# Altium schematic symbol library hhr_lib.SchLib: 151 symbols
Pins are listed as number, name and electrical type; pins without a type are passive.

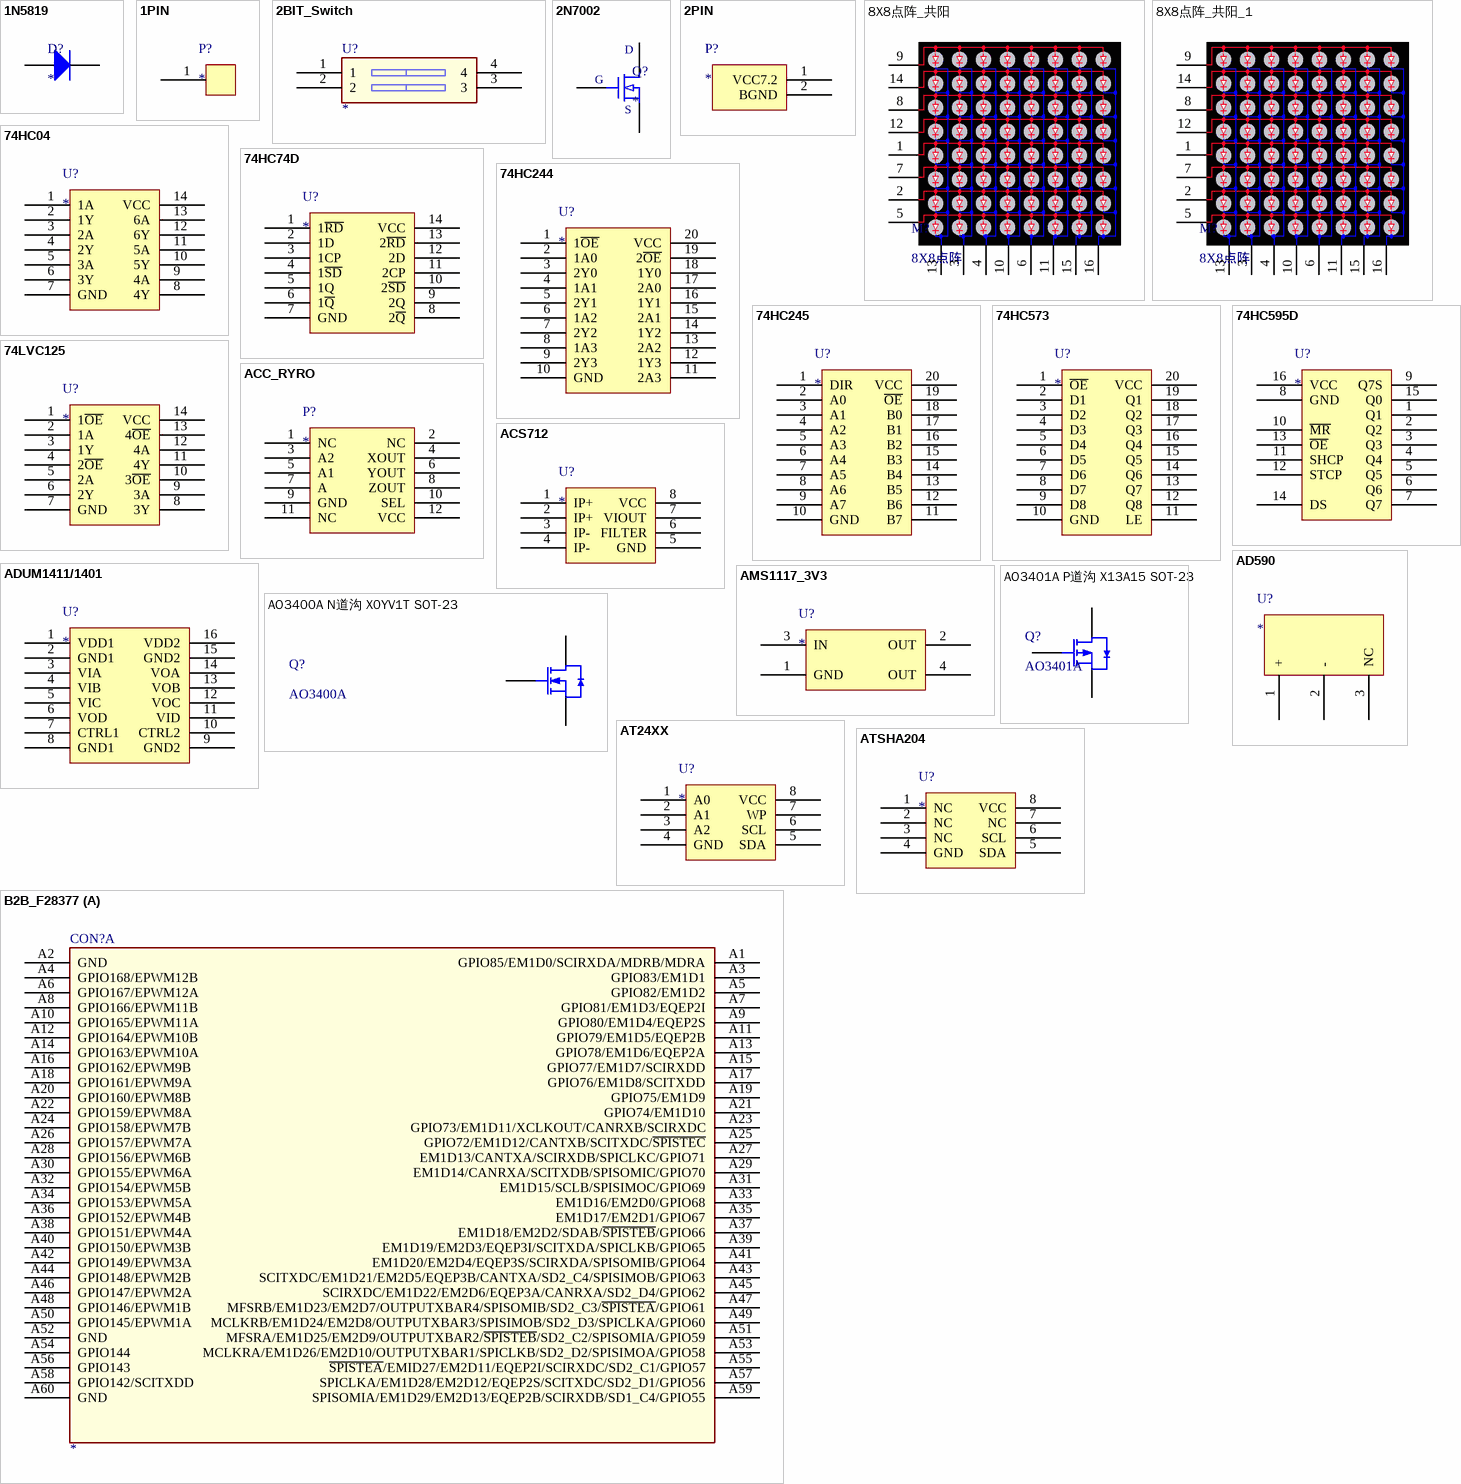
[diagram p0: symbols 1N5819 to B2B_F28377]

## 1N5819
designator D?
pins: 1 A, 2 K

## 1PIN
designator P?
footprint TEST-1P (Generic Antenna; 1 Lead)
pins: 1

## 2BIT_Switch
designator U?
footprint CON_2PIN_DIP (CON_2PIN_DIP_2D54)
pins: 1, 2, 3, 4

## 2N7002
designator Q?
pins: 1 G, 2 D, 3 S

## 2PIN
designator P?
footprint T型插头公
pins: 1 VCC7.2, 2 BGND

## 8X8点阵_共阳
designator M?, comment 8X8点阵
footprint M1588_8×8点阵
footprint M1588_8×8点阵
pins: 1 A5, 2 A7, 3 K2, 4 K3, 5 A8, 6 K5, 7 A6, 8 A3, 9 A1, 10 K4, 11 K6, 12 A4, 13 K1, 14 A2, 15 K7, 16 K8

## 8X8点阵_共阳_1
designator M?, comment 8X8点阵
footprint M1588_8×8点阵
pins: 1 A5, 2 A7, 3 K2, 4 K3, 5 A8, 6 K5, 7 A6, 8 A3, 9 A1, 10 K4, 11 K6, 12 A4, 13 K1, 14 A2, 15 K7, 16 K8

## 74HC04
designator U?
footprint SOP14 (LM339)
pins: 1 1A, 2 1Y, 3 2A, 4 2Y, 5 3A, 6 3Y, 7 GND, 8 4Y, 9 4A, 10 5Y, 11 5A, 12 6Y, 13 6A, 14 VCC

## 74HC74D
designator U?
footprint SOIC14
pins: 1 1~{RD}, 2 1D, 3 1CP, 4 1~{SD}, 5 1Q, 6 1~{Q}, 7 GND, 8 2~{Q}, 9 2Q, 10 2~{SD}, 11 2CP, 12 2D, 13 2~{RD}, 14 VCC

## 74HC244
designator U?
footprint SOIC20
pins: 1 1~{OE}, 2 1A0, 3 2Y0, 4 1A1, 5 2Y1, 6 1A2, 7 2Y2, 8 1A3, 9 2Y3, 10 GND, 11 2A3, 12 1Y3, 13 2A2, 14 1Y2, 15 2A1, 16 1Y1, 17 2A0, 18 1Y0, 19 2~{OE}, 20 VCC

## 74HC245
designator U?
footprint TSSOP20
pins: 1 DIR, 2 A0, 3 A1, 4 A2, 5 A3, 6 A4, 7 A5, 8 A6, 9 A7, 10 GND, 11 B7, 12 B6, 13 B5, 14 B4, 15 B3, 16 B2, 17 B1, 18 B0, 19 ~{OE}, 20 VCC

## 74HC573
designator U?
footprint SOP20
pins: 1 ~{OE}, 2 D1, 3 D2, 4 D3, 5 D4, 6 D5, 7 D6, 8 D7, 9 D8, 10 GND, 11 LE, 12 Q8, 13 Q7, 14 Q6, 15 Q5, 16 Q4, 17 Q3, 18 Q2, 19 Q1, 20 VCC

## 74HC595D
designator U?
footprint SO16
pins: 1 Q1, 2 Q2, 3 Q3, 4 Q4, 5 Q5, 6 Q6, 7 Q7, 8 GND, 9 Q7S, 10 ~{MR}, 11 SHCP, 12 STCP, 13 ~{OE}, 14 DS, 15 Q0, 16 VCC

## 74LVC125
designator U?
pins: 1 1~{OE}, 2 1A, 3 1Y, 4 2~{OE}, 5 2A, 6 2Y, 7 GND, 8 3Y, 9 3A, 10 3~{OE}, 11 4Y, 12 4A, 13 4~{OE}, 14 VCC

## ACC_RYRO
designator P?
pins: 1 NC, 2 NC, 3 A2, 4 XOUT, 5 A1, 6 YOUT, 7 A, 8 ZOUT, 9 GND, 10 SEL, 11 NC, 12 VCC

## ACS712
designator U?
footprint SOIC8
pins: 1 IP+, 2 IP+, 3 IP-, 4 IP-, 5 GND, 6 FILTER, 7 VIOUT, 8 VCC

## AD590
designator U?
footprint TO-52
pins: 1 +, 2 -, 3 NC

## ADUM1411/1401
designator U?
footprint SOL-16_L (16-Pin Small Outline Integrated Circuit 1.27 mm Pitch, IPC High Density)
pins: 1 VDD1, 2 GND1, 3 VIA, 4 VIB, 5 VIC, 6 VOD, 7 CTRL1, 8 GND1, 9 GND2, 10 CTRL2, 11 VID, 12 VOC, 13 VOB, 14 VOA, 15 GND2, 16 VDD2

## AMS1117_3V3
designator U?
footprint SOT-223
pins: 1 GND, 2 OUT, 3 IN, 4 OUT

## AO3400A N道沟 X0YV1T SOT-23
designator Q?, comment AO3400A
MOS(场效应管); ComponentLink1Description: 供应商链接; ComponentLink1URL: http://www.szlcsc.com/product/details_21629.html; Package: SOT-23; Supplier: LC; SuppliersPartNumber: C20917
footprint SOT-23-3L (http://www.aosmd.com/res/packaging_information/SOT-23-3L.pdf)
pins: 1 G, 2 S, 3 D

## AO3401A P道沟 X13A15 SOT-23
designator Q?, comment AO3401A
MOS(场效应管); ComponentLink1Description: 供应商链接; ComponentLink1URL: http://www.szlcsc.com/product/details_15801.html; Package: SOT-23; Supplier: LC; SuppliersPartNumber: C15127
footprint SOT23
pins: 1 G, 2 S, 3 D

## AT24XX
designator U?
footprint SOIC8
pins: 1 A0, 2 A1, 3 A2, 4 GND, 5 SDA, 6 SCL, 7 WP, 8 VCC

## ATSHA204
designator U?
footprint SOIC8
pins: 1 NC, 2 NC, 3 NC, 4 GND, 5 SDA, 6 SCL, 7 NC, 8 VCC

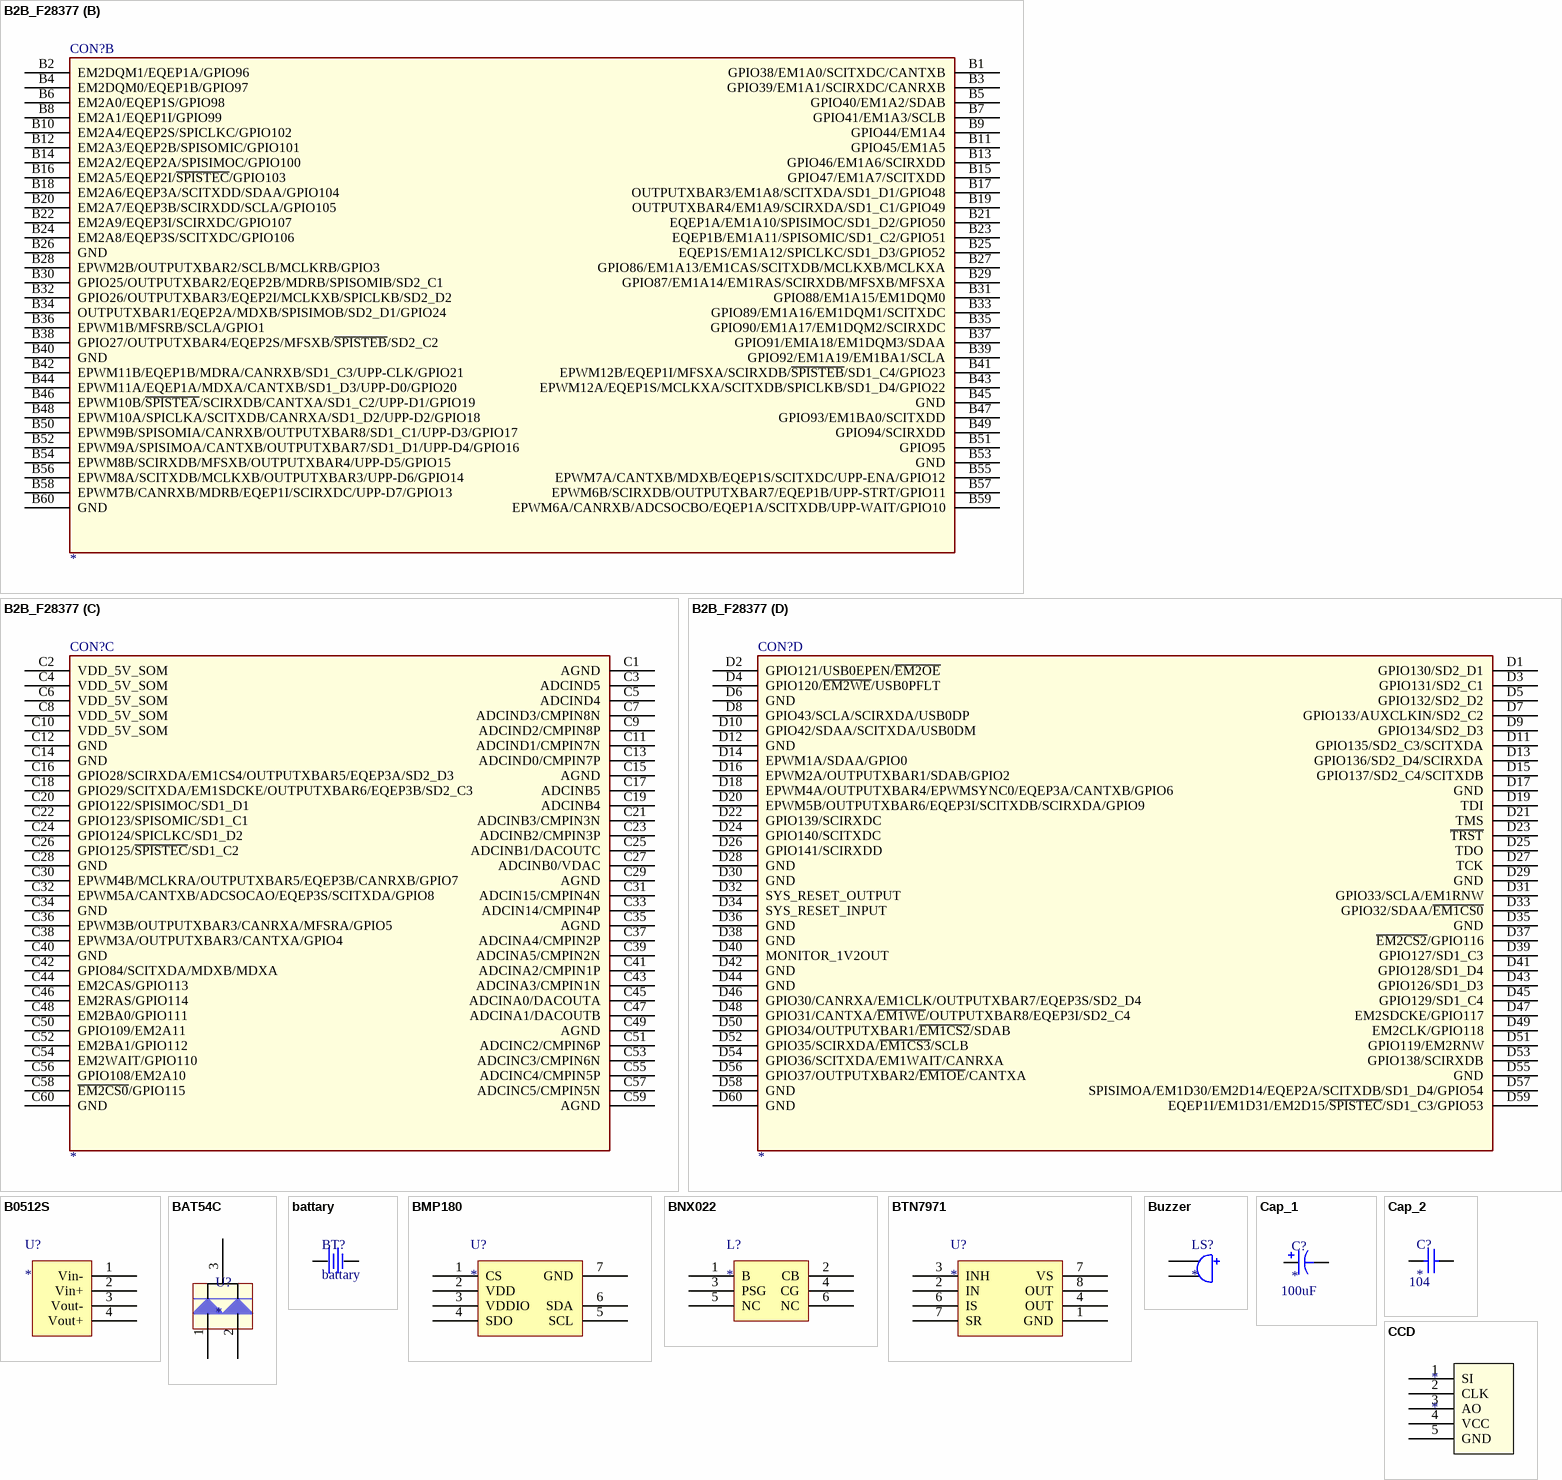
[diagram p1: symbols B2B_F28377 to CCD]

## B2B_F28377
designator CON?
SWAP_INFO: (S1+S2+S3+S4); SPLIT_INST: TRUE
footprint B2B_0D50_60P_28377
part A pins: A1 GPIO85/EM1D0/SCIRXDA/MDRB/MDRA, A2 GND (power), A3 GPIO83/EM1D1, A4 GPIO168/EPWM12B, A5 GPIO82/EM1D2, A6 GPIO167/EPWM12A, A7 GPIO81/EM1D3/EQEP2I, A8 GPIO166/EPWM11B, A9 GPIO80/EM1D4/EQEP2S, A10 GPIO165/EPWM11A, A11 GPIO79/EM1D5/EQEP2B, A12 GPIO164/EPWM10B, A13 GPIO78/EM1D6/EQEP2A, A14 GPIO163/EPWM10A, A15 GPIO77/EM1D7/SCIRXDD, A16 GPIO162/EPWM9B, A17 GPIO76/EM1D8/SCITXDD, A18 GPIO161/EPWM9A, A19 GPIO75/EM1D9, A20 GPIO160/EPWM8B, A21 GPIO74/EM1D10, A22 GPIO159/EPWM8A, A23 GPIO73/EM1D11/XCLKOUT/CANRXB/SCIRXDC, A24 GPIO158/EPWM7B, A25 GPIO72/EM1D12/CANTXB/SCITXDC/~{SPISTEC}, A26 GPIO157/EPWM7A, A27 EM1D13/CANTXA/SCIRXDB/SPICLKC/GPIO71, A28 GPIO156/EPWM6B, A29 EM1D14/CANRXA/SCITXDB/SPISOMIC/GPIO70, A30 GPIO155/EPWM6A, A31 EM1D15/SCLB/SPISIMOC/GPIO69, A32 GPIO154/EPWM5B, A33 EM1D16/EM2D0/GPIO68, A34 GPIO153/EPWM5A, A35 EM1D17/EM2D1/GPIO67, A36 GPIO152/EPWM4B, A37 EM1D18/EM2D2/SDAB/~{SPISTEB}/GPIO66, A38 GPIO151/EPWM4A, A39 EM1D19/EM2D3/EQEP3I/SCITXDA/SPICLKB/GPIO65, A40 GPIO150/EPWM3B, A41 EM1D20/EM2D4/EQEP3S/SCIRXDA/SPISOMIB/GPIO64, A42 GPIO149/EPWM3A, A43 SCITXDC/EM1D21/EM2D5/EQEP3B/CANTXA/SD2_C4/SPISIMOB/GPIO63, A44 GPIO148/EPWM2B, A45 SCIRXDC/EM1D22/EM2D6/EQEP3A/CANRXA/SD2_D4/GPIO62, A46 GPIO147/EPWM2A, A47 MFSRB/EM1D23/EM2D7/OUTPUTXBAR4/SPISOMIB/SD2_C3/~{SPISTEA}/GPIO61, A48 GPIO146/EPWM1B, A49 MCLKRB/EM1D24/EM2D8/OUTPUTXBAR3/SPISIMOB/SD2_D3/SPICLKA/GPIO60, A50 GPIO145/EPWM1A, A51 MFSRA/EM1D25/EM2D9/OUTPUTXBAR2/~{SPISTEB}/SD2_C2/SPISOMIA/GPIO59, A52 GND (power), A53 MCLKRA/EM1D26/EM2D10/OUTPUTXBAR1/SPICLKB/SD2_D2/SPISIMOA/GPIO58, A54 GPIO144, A55 ~{SPISTEA}/EMID27/EM2D11/EQEP2I/SCIRXDC/SD2_C1/GPIO57, A56 GPIO143, A57 SPICLKA/EM1D28/EM2D12/EQEP2S/SCITXDC/SD2_D1/GPIO56, A58 GPIO142/SCITXDD, A59 SPISOMIA/EM1D29/EM2D13/EQEP2B/SCIRXDB/SD1_C4/GPIO55, A60 GND (power)
part B pins: B1 GPIO38/EM1A0/SCITXDC/CANTXB, B2 EM2DQM1/EQEP1A/GPIO96, B3 GPIO39/EM1A1/SCIRXDC/CANRXB, B4 EM2DQM0/EQEP1B/GPIO97, B5 GPIO40/EM1A2/SDAB, B6 EM2A0/EQEP1S/GPIO98, B7 GPIO41/EM1A3/SCLB, B8 EM2A1/EQEP1I/GPIO99, B9 GPIO44/EM1A4, B10 EM2A4/EQEP2S/SPICLKC/GPIO102, B11 GPIO45/EM1A5, B12 EM2A3/EQEP2B/SPISOMIC/GPIO101, B13 GPIO46/EM1A6/SCIRXDD, B14 EM2A2/EQEP2A/SPISIMOC/GPIO100, B15 GPIO47/EM1A7/SCITXDD, B16 EM2A5/EQEP2I/~{SPISTEC}/GPIO103, B17 OUTPUTXBAR3/EM1A8/SCITXDA/SD1_D1/GPIO48, B18 EM2A6/EQEP3A/SCITXDD/SDAA/GPIO104, B19 OUTPUTXBAR4/EM1A9/SCIRXDA/SD1_C1/GPIO49, B20 EM2A7/EQEP3B/SCIRXDD/SCLA/GPIO105, B21 EQEP1A/EM1A10/SPISIMOC/SD1_D2/GPIO50, B22 EM2A9/EQEP3I/SCIRXDC/GPIO107, B23 EQEP1B/EM1A11/SPISOMIC/SD1_C2/GPIO51, B24 EM2A8/EQEP3S/SCITXDC/GPIO106, B25 EQEP1S/EM1A12/SPICLKC/SD1_D3/GPIO52, B26 GND (power), B27 GPIO86/EM1A13/EM1CAS/SCITXDB/MCLKXB/MCLKXA, B28 EPWM2B/OUTPUTXBAR2/SCLB/MCLKRB/GPIO3, B29 GPIO87/EM1A14/EM1RAS/SCIRXDB/MFSXB/MFSXA, B30 GPIO25/OUTPUTXBAR2/EQEP2B/MDRB/SPISOMIB/SD2_C1, B31 GPIO88/EM1A15/EM1DQM0, B32 GPIO26/OUTPUTXBAR3/EQEP2I/MCLKXB/SPICLKB/SD2_D2, B33 GPIO89/EM1A16/EM1DQM1/SCITXDC, B34 OUTPUTXBAR1/EQEP2A/MDXB/SPISIMOB/SD2_D1/GPIO24, B35 GPIO90/EM1A17/EM1DQM2/SCIRXDC, B36 EPWM1B/MFSRB/SCLA/GPIO1, B37 GPIO91/EMIA18/EM1DQM3/SDAA, B38 GPIO27/OUTPUTXBAR4/EQEP2S/MFSXB/~{SPISTEB}/SD2_C2, B39 GPIO92/EM1A19/EM1BA1/SCLA, B40 GND (power), B41 EPWM12B/EQEP1I/MFSXA/SCIRXDB/~{SPISTEB}/SD1_C4/GPIO23, B42 EPWM11B/EQEP1B/MDRA/CANRXB/SD1_C3/UPP-CLK/GPIO21, B43 EPWM12A/EQEP1S/MCLKXA/SCITXDB/SPICLKB/SD1_D4/GPIO22, B44 EPWM11A/EQEP1A/MDXA/CANTXB/SD1_D3/UPP-D0/GPIO20, B45 GND (power), B46 EPWM10B/~{SPISTEA}/SCIRXDB/CANTXA/SD1_C2/UPP-D1/GPIO19, B47 GPIO93/EM1BA0/SCITXDD, B48 EPWM10A/SPICLKA/SCITXDB/CANRXA/SD1_D2/UPP-D2/GPIO18, B49 GPIO94/SCIRXDD, B50 EPWM9B/SPISOMIA/CANRXB/OUTPUTXBAR8/SD1_C1/UPP-D3/GPIO17, B51 GPIO95, B52 EPWM9A/SPISIMOA/CANTXB/OUTPUTXBAR7/SD1_D1/UPP-D4/GPIO16, B53 GND (power), B54 EPWM8B/SCIRXDB/MFSXB/OUTPUTXBAR4/UPP-D5/GPIO15, B55 EPWM7A/CANTXB/MDXB/EQEP1S/SCITXDC/UPP-ENA/GPIO12, B56 EPWM8A/SCITXDB/MCLKXB/OUTPUTXBAR3/UPP-D6/GPIO14, B57 EPWM6B/SCIRXDB/OUTPUTXBAR7/EQEP1B/UPP-STRT/GPIO11, B58 EPWM7B/CANRXB/MDRB/EQEP1I/SCIRXDC/UPP-D7/GPIO13, B59 EPWM6A/CANRXB/ADCSOCBO/EQEP1A/SCITXDB/UPP-WAIT/GPIO10, B60 GND (power)
part C pins: C1 AGND (power), C2 VDD_5V_SOM (power), C3 ADCIND5, C4 VDD_5V_SOM (power), C5 ADCIND4, C6 VDD_5V_SOM (power), C7 ADCIND3/CMPIN8N, C8 VDD_5V_SOM (power), C9 ADCIND2/CMPIN8P, C10 VDD_5V_SOM (power), C11 ADCIND1/CMPIN7N, C12 GND (power), C13 ADCIND0/CMPIN7P, C14 GND (power), C15 AGND (power), C16 GPIO28/SCIRXDA/EM1CS4/OUTPUTXBAR5/EQEP3A/SD2_D3, C17 ADCINB5, C18 GPIO29/SCITXDA/EM1SDCKE/OUTPUTXBAR6/EQEP3B/SD2_C3, C19 ADCINB4, C20 GPIO122/SPISIMOC/SD1_D1, C21 ADCINB3/CMPIN3N, C22 GPIO123/SPISOMIC/SD1_C1, C23 ADCINB2/CMPIN3P, C24 GPIO124/SPICLKC/SD1_D2, C25 ADCINB1/DACOUTC, C26 GPIO125/~{SPISTEC}/SD1_C2, C27 ADCINB0/VDAC, C28 GND (power), C29 AGND (power), C30 EPWM4B/MCLKRA/OUTPUTXBAR5/EQEP3B/CANRXB/GPIO7, C31 ADCIN15/CMPIN4N, C32 EPWM5A/CANTXB/ADCSOCAO/EQEP3S/SCITXDA/GPIO8, C33 ADCIN14/CMPIN4P, C34 GND (power), C35 AGND (power), C36 EPWM3B/OUTPUTXBAR3/CANRXA/MFSRA/GPIO5, C37 ADCINA4/CMPIN2P, C38 EPWM3A/OUTPUTXBAR3/CANTXA/GPIO4, C39 ADCINA5/CMPIN2N, C40 GND (power), C41 ADCINA2/CMPIN1P, C42 GPIO84/SCITXDA/MDXB/MDXA, C43 ADCINA3/CMPIN1N, C44 EM2CAS/GPIO113, C45 ADCINA0/DACOUTA, C46 EM2RAS/GPIO114, C47 ADCINA1/DACOUTB, C48 EM2BA0/GPIO111, C49 AGND (power), C50 GPIO109/EM2A11, C51 ADCINC2/CMPIN6P, C52 EM2BA1/GPIO112, C53 ADCINC3/CMPIN6N, C54 EM2WAIT/GPIO110, C55 ADCINC4/CMPIN5P, C56 GPIO108/EM2A10, C57 ADCINC5/CMPIN5N, C58 ~{EM2CS0}/GPIO115, C59 AGND (power), C60 GND (power)
part D pins: D1 GPIO130/SD2_D1, D2 GPIO121/USB0EPEN/~{EM2OE}, D3 GPIO131/SD2_C1, D4 GPIO120/~{EM2WE}/USB0PFLT, D5 GPIO132/SD2_D2, D6 GND (power), D7 GPIO133/AUXCLKIN/SD2_C2, D8 GPIO43/SCLA/SCIRXDA/USB0DP, D9 GPIO134/SD2_D3, D10 GPIO42/SDAA/SCITXDA/USB0DM, D11 GPIO135/SD2_C3/SCITXDA, D12 GND (power), D13 GPIO136/SD2_D4/SCIRXDA, D14 EPWM1A/SDAA/GPIO0, D15 GPIO137/SD2_C4/SCITXDB, D16 EPWM2A/OUTPUTXBAR1/SDAB/GPIO2, D17 GND (power), D18 EPWM4A/OUTPUTXBAR4/EPWMSYNC0/EQEP3A/CANTXB/GPIO6, D19 TDI, D20 EPWM5B/OUTPUTXBAR6/EQEP3I/SCITXDB/SCIRXDA/GPIO9, D21 TMS, D22 GPIO139/SCIRXDC, D23 ~{TRST}, D24 GPIO140/SCITXDC, D25 TDO, D26 GPIO141/SCIRXDD, D27 TCK, D28 GND (power), D29 GND (power), D30 GND (power), D31 GPIO33/SCLA/EM1RNW, D32 SYS_RESET_OUTPUT, D33 GPIO32/SDAA/~{EM1CS0}, D34 SYS_RESET_INPUT, D35 GND (power), D36 GND (power), D37 ~{EM2CS2}/GPIO116, D38 GND (power), D39 GPIO127/SD1_C3, D40 MONITOR_1V2OUT, D41 GPIO128/SD1_D4, D42 GND (power), D43 GPIO126/SD1_D3, D44 GND (power), D45 GPIO129/SD1_C4, D46 GPIO30/CANRXA/EM1CLK/OUTPUTXBAR7/EQEP3S/SD2_D4, D47 EM2SDCKE/GPIO117, D48 GPIO31/CANTXA/~{EM1WE}/OUTPUTXBAR8/EQEP3I/SD2_C4, D49 EM2CLK/GPIO118, D50 GPIO34/OUTPUTXBAR1/~{EM1CS2}/SDAB, D51 GPIO119/EM2RNW, D52 GPIO35/SCIRXDA/~{EM1CS3}/SCLB, D53 GPIO138/SCIRXDB, D54 GPIO36/SCITXDA/EM1WAIT/CANRXA, D55 GND (power), D56 GPIO37/OUTPUTXBAR2/~{EM1OE}/CANTXA, D57 SPISIMOA/EM1D30/EM2D14/EQEP2A/SCITXDB/SD1_D4/GPIO54, D58 GND (power), D59 EQEP1I/EM1D31/EM2D15/~{SPISTEC}/SD1_C3/GPIO53, D60 GND (power)

## B0512S
designator U?
footprint B0512S
pins: 1 Vin-, 2 Vin+, 3 Vout-, 4 Vout+

## BAT54C
designator U?
footprint SOT23
pins: 1, 2, 3

## battary
designator BT?
footprint BAT_N (CR2032电池座（未加焊）)
footprint CR1220
pins: 1, 2

## BMP180
designator U?
footprint LGA-7
pins: 1 CS, 2 VDD, 3 VDDIO, 4 SDO, 5 SCL, 6 SDA, 7 GND

## BNX022
designator L?
footprint BNX022
pins: 1 B, 2 CB, 3 PSG, 4 CG, 5 NC, 6 NC

## BTN7971
designator U?
footprint BTS7960
pins: 1 GND, 2 IN, 3 INH, 4 OUT, 6 IS, 7 VS, 7 SR, 8 OUT

## Buzzer
designator LS?
footprint FMQ
pins: 1, 2

## Cap_1
designator C?  value 100uF
footprint C6.3X6.3
pins: 1, 2

## Cap_2
designator C?  value 104
footprint C0805
footprint C0603
pins: 1, 2

## CCD
designator *
footprint XH2.54-5
pins: 1 SI, 2 CLK, 3 AO, 4 VCC, 5 GND

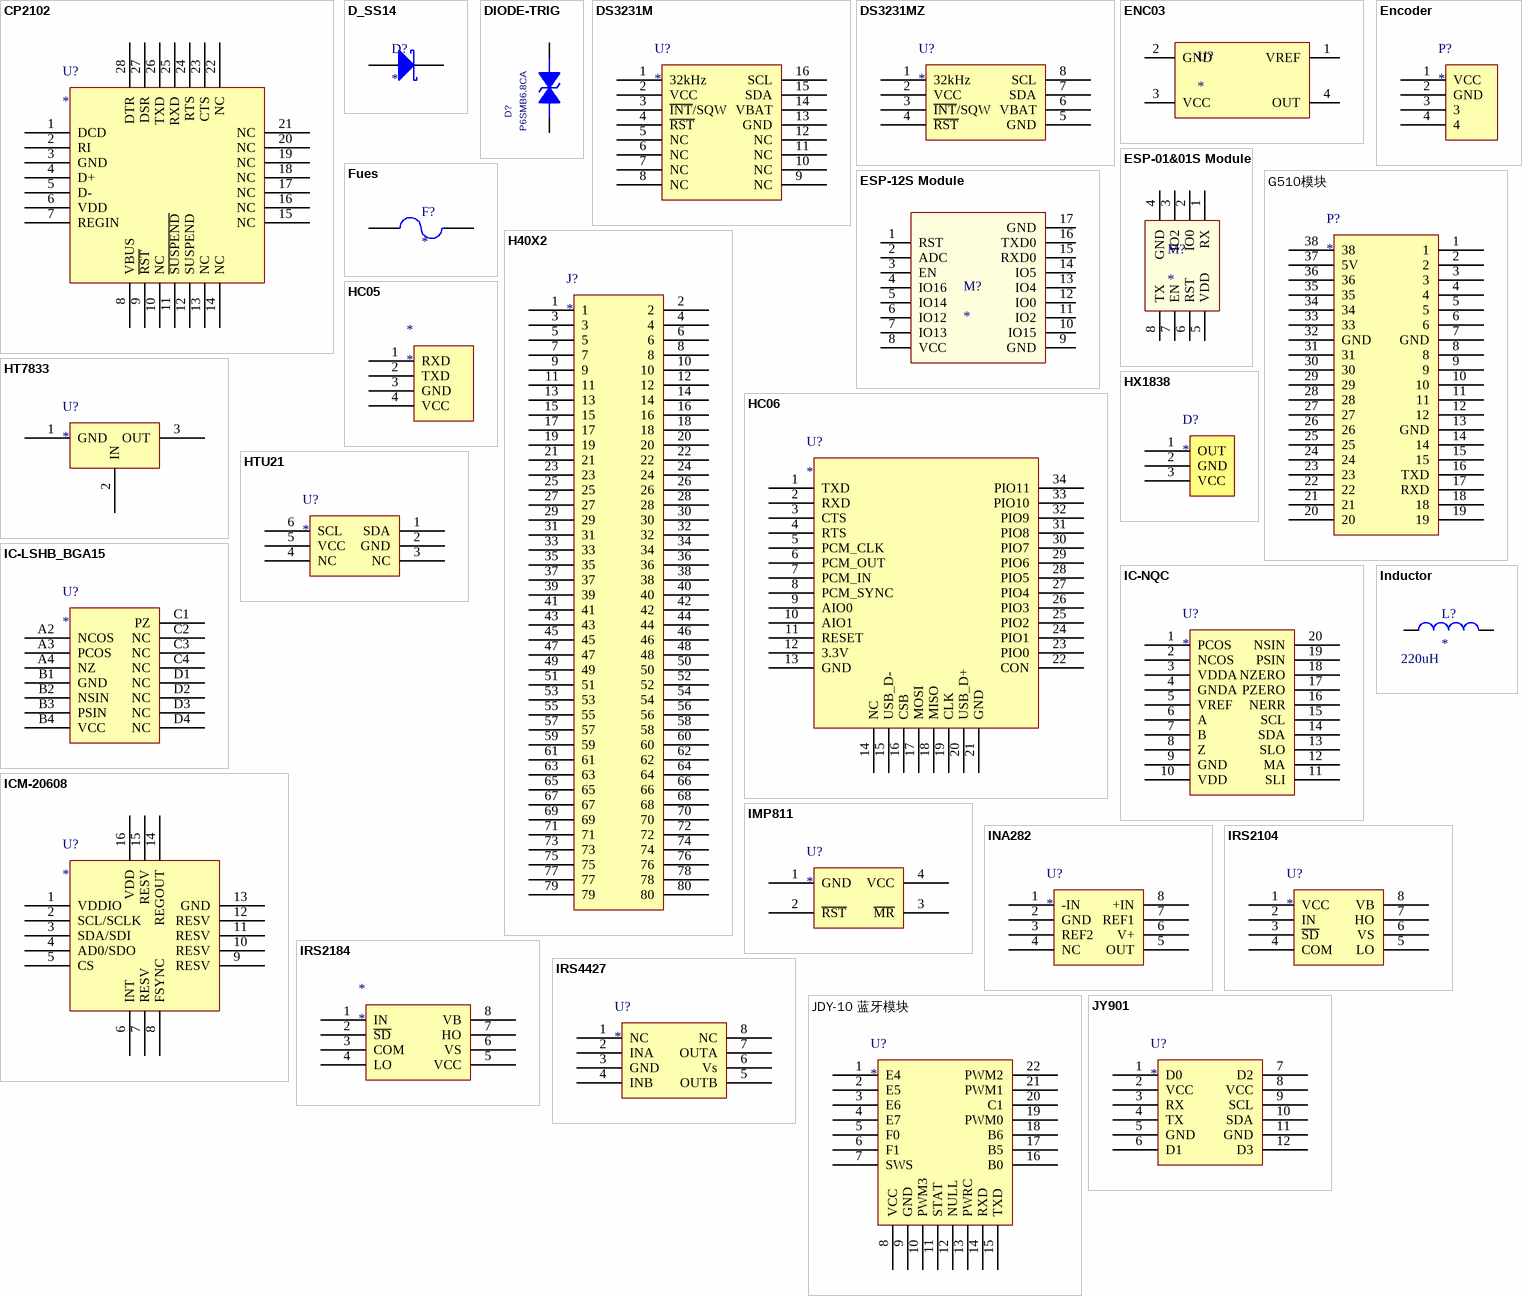
[diagram p2: symbols CP2102 to JY901]

## CP2102
designator U?
footprint QFN-28 (QFN, 28-Leads, Body 5.00x5.00mm, Pitch 0.50mm, Thermal Pad 3.03x3.03mm, IPC Medium Density)
pins: 1 DCD, 2 RI, 3 GND, 4 D+, 5 D-, 6 VDD, 7 REGIN, 8 VBUS, 9 ~{RST}, 10 NC, 11 ~{SUSPEND}, 12 SUSPEND, 13 NC, 14 NC, 15 NC, 16 NC, 17 NC, 18 NC, 19 NC, 20 NC, 21 NC, 22 NC, 23 CTS, 24 RTS, 25 RXD, 26 TXD, 27 DSR, 28 DTR

## D_SS14
designator D?
footprint SMA (DO-214AC(2010))
pins: 1 A, 2 K

## DIODE-TRIG
designator D?, comment P6SMB6.8CA
Manufacturer: VISHAY; Remark: ESD; Manufacturer PartNumber: P6SMB6.8CA
footprint SMB (DO-214AA)
pins: 1, 2

## DS3231M
designator U?
footprint SOL-16_L (16-Pin Small Outline Integrated Circuit 1.27 mm Pitch, IPC High Density)
pins: 1 32kHz, 2 VCC, 3 ~{INT}/SQW, 4 ~{RST}, 5 NC, 6 NC, 7 NC, 8 NC, 9 NC, 10 NC, 11 NC, 12 NC, 13 GND, 14 VBAT, 15 SDA, 16 SCL

## DS3231MZ
designator U?
footprint SOP8
pins: 1 32kHz, 2 VCC, 3 ~{INT}/SQW, 4 ~{RST}, 5 GND, 6 VBAT, 7 SDA, 8 SCL

## ENC03
designator U?
footprint Model Name (Footprint not found)
footprint ENC03
pins: 1 VREF, 2 GND, 3 VCC, 4 OUT

## Encoder
designator P?
footprint XH2.54-4
pins: 1 VCC, 2 GND, 3, 4

## ESP-01&01S Module
designator M?
footprint ESP-01&01S Module
pins: 1 RX, 2 IO0, 3 IO2, 4 GND, 5 VDD, 6 RST, 7 EN, 8 TX

## ESP-12S Module
designator M?
ESP-12S Module
footprint ESP-12S Module
pins: 1 RST, 2 ADC, 3 EN, 4 IO16, 5 IO14, 6 IO12, 7 IO13, 8 VCC, 9 GND, 10 IO15, 11 IO2, 12 IO0, 13 IO4, 14 IO5, 15 RXD0, 16 TXD0, 17 GND

## Fues
designator F?
footprint R1206 (1/4W)
pins: 1, 2

## G510模块
designator P?
footprint G510模组(3代)-DIP
pins: 1, 2, 3, 4, 5, 6, 7 GND, 8, 9, 10, 11, 12, 13 GND, 14, 15, 16 TXD, 17 RXD, 18, 19, 20, 21, 22, 23, 24, 25, 26, 27, 28, 29, 30, 31, 32 GND, 33, 34, 35, 36, 37 5V, 38

## H40X2
designator J?
footprint 2.0MM
pins: 1, 2, 3, 4, 5, 6, 7, 8, 9, 10, 11, 12, 13, 14, 15, 16, 17, 18, 19, 20, 21, 22, 23, 24, 25, 26, 27, 28, 29, 30, 31, 32, 33, 34, 35, 36, 37, 38, 39, 40, 41, 42, 43, 44, 45, 46, 47, 48, 49, 50, 51, 52, 53, 54, 55, 56, 57, 58, 59, 60, 61, 62, 63, 64, 65, 66, 67, 68, 69, 70, 71, 72, 73, 74, 75, 76, 77, 78, 79, 80

## HC05
designator *
footprint HDR1X4H (Connector; Header; 4 Position; Right Angle)
pins: 1 RXD, 2 TXD, 3 GND, 4 VCC

## HC06
designator U?
BLUETOOTH MODEL
footprint HC-05/06/08V15
pins: 1 TXD, 2 RXD, 3 CTS, 4 RTS, 5 PCM_CLK, 6 PCM_OUT, 7 PCM_IN, 8 PCM_SYNC, 9 AIO0, 10 AIO1, 11 RESET, 12 3.3V, 13 GND, 14 NC, 15 USB_D-, 16 CSB, 17 MOSI, 18 MISO, 19 CLK, 20 USB_D+, 21 GND, 22 CON, 23 PIO0, 24 PIO1, 25 PIO2, 26 PIO3, 27 PIO4, 28 PIO5, 29 PIO6, 30 PIO7, 31 PIO8, 32 PIO9, 33 PIO10, 34 PIO11

## HT7833
designator U?
footprint SOT-89
pins: 1 GND, 2 IN, 3 OUT

## HTU21
designator U?
footprint QFN6 (SOT-23/SC-74A; 5 Leads; Body 3.1 x 3 mm, inc. leads (LxW max))
pins: 1 SDA, 2 GND, 3 NC, 4 NC, 5 VCC, 6 SCL

## HX1838
designator D?
footprint IR
pins: 1 OUT, 2 GND, 3 VCC

## IC-LSHB_BGA15
designator U?
footprint BGA15 (BGA, 15-Leads, Body 6.20x5.20mmx3.50mm, Pitch 1.27mm)
pins: A2 NCOS, A3 PCOS, A4 NZ, B1 GND, B2 NSIN, B3 PSIN, B4 VCC, C1 PZ, C2 NC, C3 NC, C4 NC, D1 NC, D2 NC, D3 NC, D4 NC

## IC-NQC
designator U?
footprint TSSOP20
pins: 1 PCOS, 2 NCOS, 3 VDDA, 4 GNDA, 5 VREF, 6 A, 7 B, 8 Z, 9 GND, 10 VDD, 11 SLI, 12 MA, 13 SLO, 14 SDA, 15 SCL, 16 NERR, 17 PZERO, 18 NZERO, 19 PSIN, 20 NSIN

## ICM-20608
designator U?
footprint LGA16-3x3 (3.00x3.00x0.75mm)
pins: 1 VDDIO, 2 SCL/SCLK, 3 SDA/SDI, 4 AD0/SDO, 5 CS, 6 INT, 7 RESV, 8 FSYNC, 9 RESV, 10 RESV, 11 RESV, 12 RESV, 13 GND, 14 REGOUT, 15 RESV, 16 VDD

## IMP811
designator U?
footprint SOT-143 (SOT143, 4-Leads, Body 3.0x2.5mm (max), Pitch 1.90mm, IPC Medium Density)
pins: 1 GND, 2 ~{RST}, 3 ~{MR}, 4 VCC

## INA282
designator U?
footprint SOIC8
pins: 1 -IN, 2 GND, 3 REF2, 4 NC, 5 OUT, 6 V+, 7 REF1, 8 +IN

## Inductor
designator L?  value 220uH
pins: 1, 2

## IRS2104
designator U?
footprint SOIC8
pins: 1 VCC, 2 IN, 3 ~{SD}, 4 COM, 5 LO, 6 VS, 7 HO, 8 VB

## IRS2184
designator *
pins: 1 IN, 2 ~{SD}, 3 COM, 4 LO, 5 VCC, 6 VS, 7 HO, 8 VB

## IRS4427
designator U?
footprint SOIC8
pins: 1 NC, 2 INA, 3 GND, 4 INB, 5 OUTB, 6 Vs, 7 OUTA, 8 NC

## JDY-10 蓝牙模块
designator U?
footprint JDY-10
pins: 1 E4, 2 E5, 3 E6, 4 E7, 5 F0, 6 F1, 7 SWS, 8 VCC, 9 GND, 10 PWM3, 11 STAT, 12 NULL, 13 PWRC, 14 RXD, 15 TXD, 16 B0, 17 B5, 18 B6, 19 PWM0, 20 C1, 21 PWM1, 22 PWM2

## JY901
designator U?
footprint JY901
pins: 1 D0, 2 VCC, 3 RX, 4 TX, 5 GND, 6 D1, 7 D2, 8 VCC, 9 SCL, 10 SDA, 11 GND, 12 D3

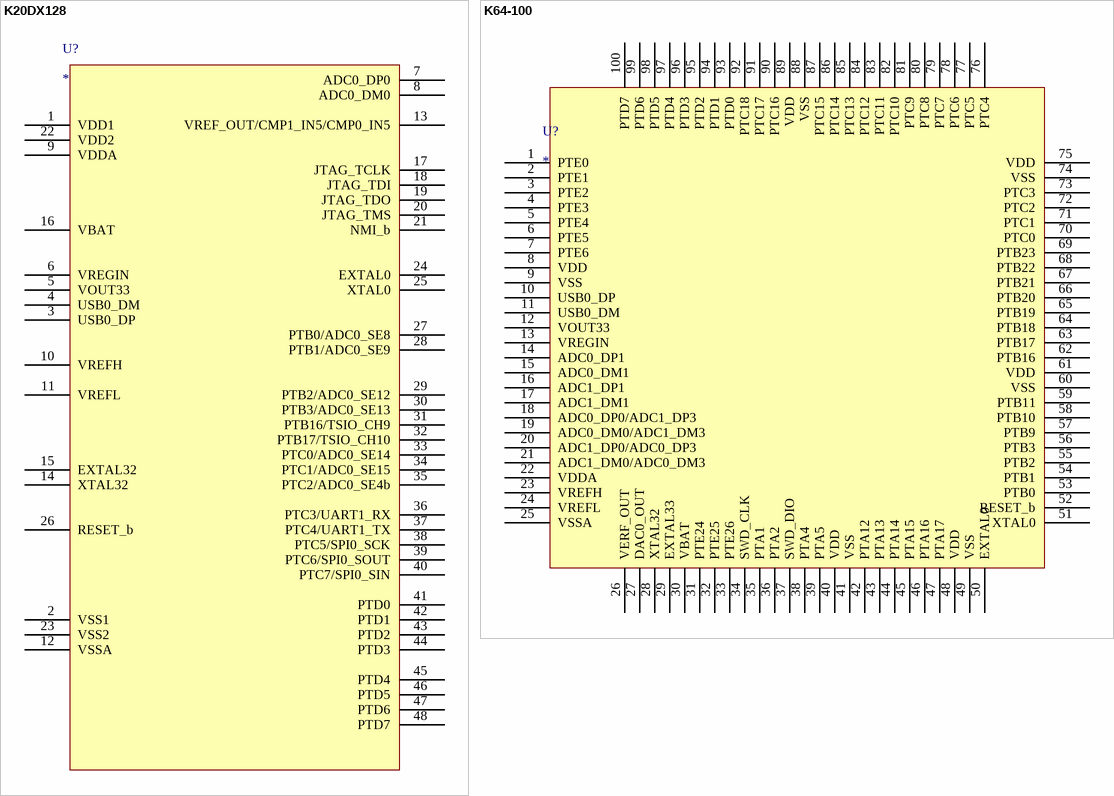
[diagram p3: symbols K20DX128 to K64-100]

## K20DX128
designator U?
footprint LQFP-48
pins: 1 VDD1, 2 VSS1, 3 USB0_DP, 4 USB0_DM, 5 VOUT33, 6 VREGIN, 7 ADC0_DP0, 8 ADC0_DM0, 9 VDDA, 10 VREFH, 11 VREFL, 12 VSSA, 13 VREF_OUT/CMP1_IN5/CMP0_IN5, 14 XTAL32, 15 EXTAL32, 16 VBAT, 17 JTAG_TCLK, 18 JTAG_TDI, 19 JTAG_TDO, 20 JTAG_TMS, 21 NMI_b, 22 VDD2, 23 VSS2, 24 EXTAL0, 25 XTAL0, 26 RESET_b, 27 PTB0/ADC0_SE8, 28 PTB1/ADC0_SE9, 29 PTB2/ADC0_SE12, 30 PTB3/ADC0_SE13, 31 PTB16/TSIO_CH9, 32 PTB17/TSIO_CH10, 33 PTC0/ADC0_SE14, 34 PTC1/ADC0_SE15, 35 PTC2/ADC0_SE4b, 36 PTC3/UART1_RX, 37 PTC4/UART1_TX, 38 PTC5/SPI0_SCK, 39 PTC6/SPI0_SOUT, 40 PTC7/SPI0_SIN, 41 PTD0, 42 PTD1, 43 PTD2, 44 PTD3, 45 PTD4, 46 PTD5, 47 PTD6, 48 PTD7

## K64-100
designator U?
footprint LQFP-100
pins: 1 PTE0, 2 PTE1, 3 PTE2, 4 PTE3, 5 PTE4, 6 PTE5, 7 PTE6, 8 VDD, 9 VSS, 10 USB0_DP, 11 USB0_DM, 12 VOUT33, 13 VREGIN, 14 ADC0_DP1, 15 ADC0_DM1, 16 ADC1_DP1, 17 ADC1_DM1, 18 ADC0_DP0/ADC1_DP3, 19 ADC0_DM0/ADC1_DM3, 20 ADC1_DP0/ADC0_DP3, 21 ADC1_DM0/ADC0_DM3, 22 VDDA, 23 VREFH, 24 VREFL, 25 VSSA, 26 VERF_OUT, 27 DAC0_OUT, 28 XTAL32, 29 EXTAL33, 30 VBAT, 31 PTE24, 32 PTE25, 33 PTE26, 34 SWD_CLK, 35 PTA1, 36 PTA2, 37 SWD_DIO, 38 PTA4, 39 PTA5, 40 VDD, 41 VSS, 42 PTA12, 43 PTA13, 44 PTA14, 45 PTA15, 46 PTA16, 47 PTA17, 48 VDD, 49 VSS, 50 EXTAL0, 51 XTAL0, 52 RESET_b, 53 PTB0, 54 PTB1, 55 PTB2, 56 PTB3, 57 PTB9, 58 PTB10, 59 PTB11, 60 VSS, 61 VDD, 62 PTB16, 63 PTB17, 64 PTB18, 65 PTB19, 66 PTB20, 67 PTB21, 68 PTB22, 69 PTB23, 70 PTC0, 71 PTC1, 72 PTC2, 73 PTC3, 74 VSS, 75 VDD, 76 PTC4, 77 PTC5, 78 PTC6, 79 PTC7, 80 PTC8, 81 PTC9, 82 PTC10, 83 PTC11, 84 PTC12, 85 PTC13, 86 PTC14, 87 PTC15, 88 VSS, 89 VDD, 90 PTC16, 91 PTC17, 92 PTC18, 93 PTD0, 94 PTD1, 95 PTD2, 96 PTD3, 97 PTD4, 98 PTD5, 99 PTD6, 100 PTD7

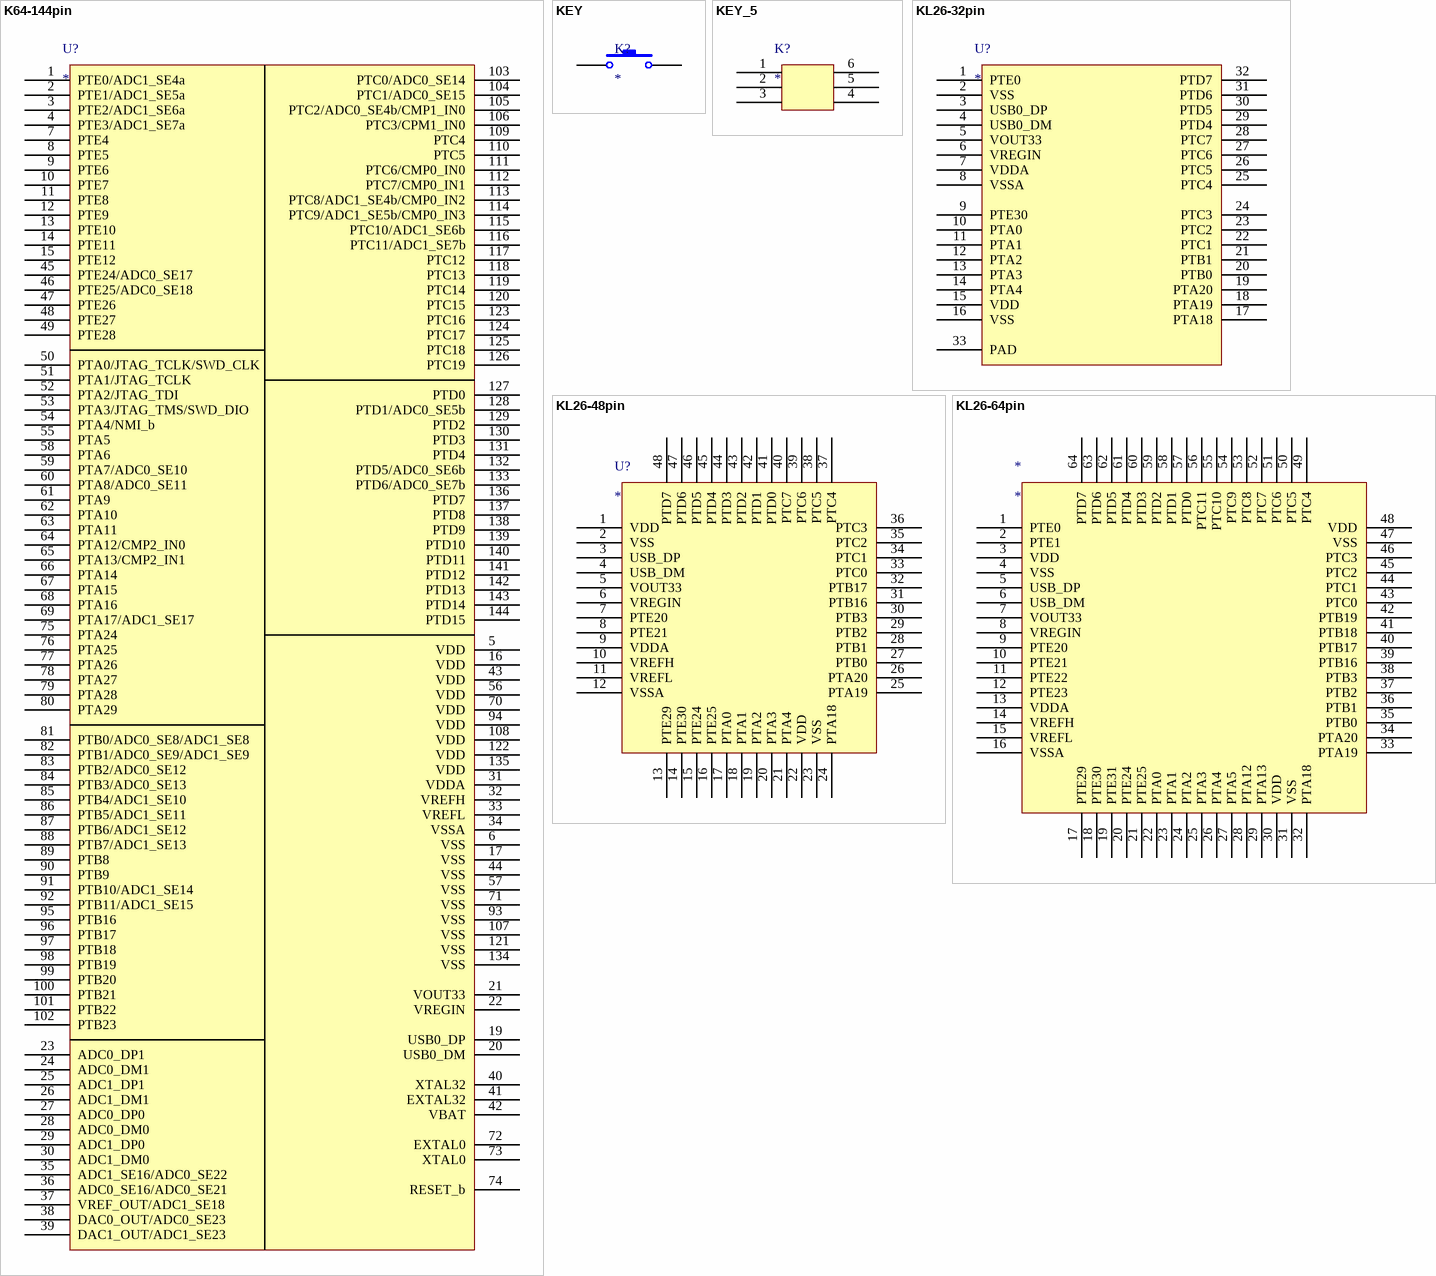
[diagram p4: symbols K64-144pin to KL26-64pin]

## K64-144pin
designator U?
footprint LQFP144
pins: 1 PTE0/ADC1_SE4a, 2 PTE1/ADC1_SE5a, 3 PTE2/ADC1_SE6a, 4 PTE3/ADC1_SE7a, 5 VDD, 6 VSS, 7 PTE4, 8 PTE5, 9 PTE6, 10 PTE7, 11 PTE8, 12 PTE9, 13 PTE10, 14 PTE11, 15 PTE12, 16 VDD, 17 VSS, 19 USB0_DP, 20 USB0_DM, 21 VOUT33, 22 VREGIN, 23 ADC0_DP1, 24 ADC0_DM1, 25 ADC1_DP1, 26 ADC1_DM1, 27 ADC0_DP0, 28 ADC0_DM0, 29 ADC1_DP0, 30 ADC1_DM0, 31 VDDA, 32 VREFH, 33 VREFL, 34 VSSA, 35 ADC1_SE16/ADC0_SE22, 36 ADC0_SE16/ADC0_SE21, 37 VREF_OUT/ADC1_SE18, 38 DAC0_OUT/ADC0_SE23, 39 DAC1_OUT/ADC1_SE23, 40 XTAL32, 41 EXTAL32, 42 VBAT, 43 VDD, 44 VSS, 45 PTE24/ADC0_SE17, 46 PTE25/ADC0_SE18, 47 PTE26, 48 PTE27, 49 PTE28, 50 PTA0/JTAG_TCLK/SWD_CLK, 51 PTA1/JTAG_TCLK, 52 PTA2/JTAG_TDI, 53 PTA3/JTAG_TMS/SWD_DIO, 54 PTA4/NMI_b, 55 PTA5, 56 VDD, 57 VSS, 58 PTA6, 59 PTA7/ADC0_SE10, 60 PTA8/ADC0_SE11, 61 PTA9, 62 PTA10, 63 PTA11, 64 PTA12/CMP2_IN0, 65 PTA13/CMP2_IN1, 66 PTA14, 67 PTA15, 68 PTA16, 69 PTA17/ADC1_SE17, 70 VDD, 71 VSS, 72 EXTAL0, 73 XTAL0, 74 RESET_b, 75 PTA24, 76 PTA25, 77 PTA26, 78 PTA27, 79 PTA28, 80 PTA29, 81 PTB0/ADC0_SE8/ADC1_SE8, 82 PTB1/ADC0_SE9/ADC1_SE9, 83 PTB2/ADC0_SE12, 84 PTB3/ADC0_SE13, 85 PTB4/ADC1_SE10, 86 PTB5/ADC1_SE11, 87 PTB6/ADC1_SE12, 88 PTB7/ADC1_SE13, 89 PTB8, 90 PTB9, 91 PTB10/ADC1_SE14, 92 PTB11/ADC1_SE15, 93 VSS, 94 VDD, 95 PTB16, 96 PTB17, 97 PTB18, 98 PTB19, 99 PTB20, 100 PTB21, 101 PTB22, 102 PTB23, 103 PTC0/ADC0_SE14, 104 PTC1/ADC0_SE15, 105 PTC2/ADC0_SE4b/CMP1_IN0, 106 PTC3/CPM1_IN0, 107 VSS, 108 VDD, 109 PTC4, 110 PTC5, 111 PTC6/CMP0_IN0, 112 PTC7/CMP0_IN1, 113 PTC8/ADC1_SE4b/CMP0_IN2, 114 PTC9/ADC1_SE5b/CMP0_IN3, 115 PTC10/ADC1_SE6b, 116 PTC11/ADC1_SE7b, 117 PTC12, 118 PTC13, 119 PTC14, 120 PTC15, 121 VSS, 122 VDD, 123 PTC16, 124 PTC17, 125 PTC18, 126 PTC19, 127 PTD0, 128 PTD1/ADC0_SE5b, 129 PTD2, 130 PTD3, 131 PTD4, 132 PTD5/ADC0_SE6b, 133 PTD6/ADC0_SE7b, 134 VSS, 135 VDD, 136 PTD7, 137 PTD8, 138 PTD9, 139 PTD10, 140 PTD11, 141 PTD12, 142 PTD13, 143 PTD14, 144 PTD15

## KEY
designator K?
footprint KEY-SMD1
pins: 1, 2

## KEY_5
designator K?
footprint KEY-5
pins: 1, 2, 3, 4, 5, 6

## KL26-32pin
designator U?
footprint QFN32
pins: 1 PTE0, 2 VSS, 3 USB0_DP, 4 USB0_DM, 5 VOUT33, 6 VREGIN, 7 VDDA, 8 VSSA, 9 PTE30, 10 PTA0, 11 PTA1, 12 PTA2, 13 PTA3, 14 PTA4, 15 VDD, 16 VSS, 17 PTA18, 18 PTA19, 19 PTA20, 20 PTB0, 21 PTB1, 22 PTC1, 23 PTC2, 24 PTC3, 25 PTC4, 26 PTC5, 27 PTC6, 28 PTC7, 29 PTD4, 30 PTD5, 31 PTD6, 32 PTD7, 33 PAD

## KL26-48pin
designator U?
footprint QFN48 (QFN, 48-Leads, Body 7.00x7.00mm, Pitch 0.50mm, Thermal Pad 5.73x5.73mm, IPC Medium Density)
pins: 1 VDD, 2 VSS, 3 USB_DP, 4 USB_DM, 5 VOUT33, 6 VREGIN, 7 PTE20, 8 PTE21, 9 VDDA, 10 VREFH, 11 VREFL, 12 VSSA, 13 PTE29, 14 PTE30, 15 PTE24, 16 PTE25, 17 PTA0, 18 PTA1, 19 PTA2, 20 PTA3, 21 PTA4, 22 VDD, 23 VSS, 24 PTA18, 25 PTA19, 26 PTA20, 27 PTB0, 28 PTB1, 29 PTB2, 30 PTB3, 31 PTB16, 32 PTB17, 33 PTC0, 34 PTC1, 35 PTC2, 36 PTC3, 37 PTC4, 38 PTC5, 39 PTC6, 40 PTC7, 41 PTD0, 42 PTD1, 43 PTD2, 44 PTD3, 45 PTD4, 46 PTD5, 47 PTD6, 48 PTD7

## KL26-64pin
designator *
footprint LQFP-64
pins: 1 PTE0, 2 PTE1, 3 VDD, 4 VSS, 5 USB_DP, 6 USB_DM, 7 VOUT33, 8 VREGIN, 9 PTE20, 10 PTE21, 11 PTE22, 12 PTE23, 13 VDDA, 14 VREFH, 15 VREFL, 16 VSSA, 17 PTE29, 18 PTE30, 19 PTE31, 20 PTE24, 21 PTE25, 22 PTA0, 23 PTA1, 24 PTA2, 25 PTA3, 26 PTA4, 27 PTA5, 28 PTA12, 29 PTA13, 30 VDD, 31 VSS, 32 PTA18, 33 PTA19, 34 PTA20, 35 PTB0, 36 PTB1, 37 PTB2, 38 PTB3, 39 PTB16, 40 PTB17, 41 PTB18, 42 PTB19, 43 PTC0, 44 PTC1, 45 PTC2, 46 PTC3, 47 VSS, 48 VDD, 49 PTC4, 50 PTC5, 51 PTC6, 52 PTC7, 53 PTC8, 54 PTC9, 55 PTC10, 56 PTC11, 57 PTD0, 58 PTD1, 59 PTD2, 60 PTD3, 61 PTD4, 62 PTD5, 63 PTD6, 64 PTD7

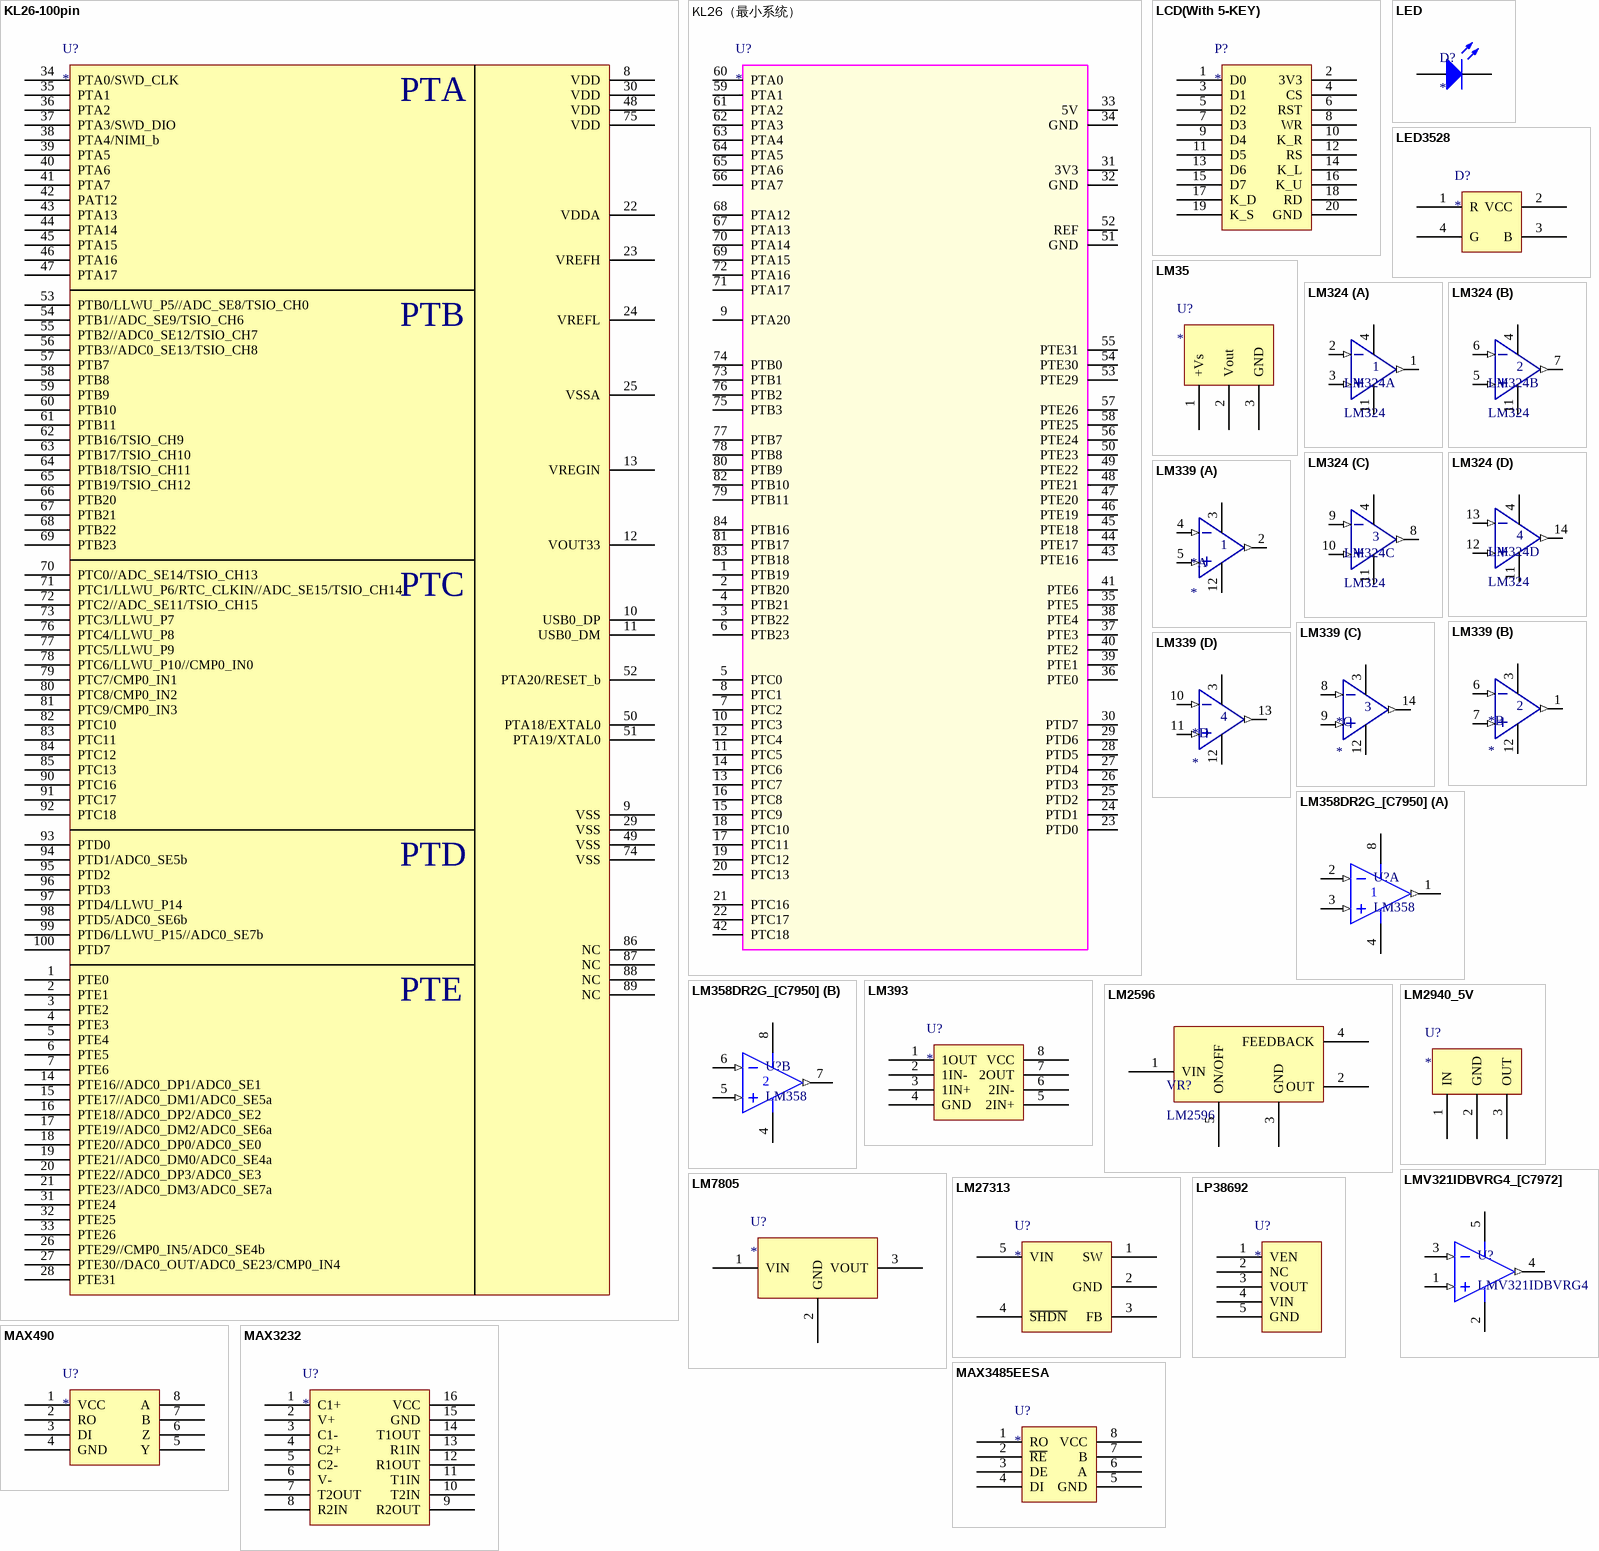
[diagram p5: symbols KL26-100pin to MAX3485EESA]

## KL26-100pin
designator U?
pins: 1 PTE0, 2 PTE1, 3 PTE2, 4 PTE3, 5 PTE4, 6 PTE5, 7 PTE6, 8 VDD, 9 VSS, 10 USB0_DP, 11 USB0_DM, 12 VOUT33, 13 VREGIN, 14 PTE16//ADC0_DP1/ADC0_SE1, 15 PTE17//ADC0_DM1/ADC0_SE5a, 16 PTE18//ADC0_DP2/ADC0_SE2, 17 PTE19//ADC0_DM2/ADC0_SE6a, 18 PTE20//ADC0_DP0/ADC0_SE0, 19 PTE21//ADC0_DM0/ADC0_SE4a, 20 PTE22//ADC0_DP3/ADC0_SE3, 21 PTE23//ADC0_DM3/ADC0_SE7a, 22 VDDA, 23 VREFH, 24 VREFL, 25 VSSA, 26 PTE29//CMP0_IN5/ADC0_SE4b, 27 PTE30//DAC0_OUT/ADC0_SE23/CMP0_IN4, 28 PTE31, 29 VSS, 30 VDD, 31 PTE24, 32 PTE25, 33 PTE26, 34 PTA0/SWD_CLK, 35 PTA1, 36 PTA2, 37 PTA3/SWD_DIO, 38 PTA4/NIMI_b, 39 PTA5, 40 PTA6, 41 PTA7, 42 PAT12, 43 PTA13, 44 PTA14, 45 PTA15, 46 PTA16, 47 PTA17, 48 VDD, 49 VSS, 50 PTA18/EXTAL0, 51 PTA19/XTAL0, 52 PTA20/RESET_b, 53 PTB0/LLWU_P5//ADC_SE8/TSIO_CH0, 54 PTB1//ADC_SE9/TSIO_CH6, 55 PTB2//ADC0_SE12/TSIO_CH7, 56 PTB3//ADC0_SE13/TSIO_CH8, 57 PTB7, 58 PTB8, 59 PTB9, 60 PTB10, 61 PTB11, 62 PTB16/TSIO_CH9, 63 PTB17/TSIO_CH10, 64 PTB18/TSIO_CH11, 65 PTB19/TSIO_CH12, 66 PTB20, 67 PTB21, 68 PTB22, 69 PTB23, 70 PTC0//ADC_SE14/TSIO_CH13, 71 PTC1/LLWU_P6/RTC_CLKIN//ADC_SE15/TSIO_CH14, 72 PTC2//ADC_SE11/TSIO_CH15, 73 PTC3/LLWU_P7, 74 VSS, 75 VDD, 76 PTC4/LLWU_P8, 77 PTC5/LLWU_P9, 78 PTC6/LLWU_P10//CMP0_IN0, 79 PTC7/CMP0_IN1, 80 PTC8/CMP0_IN2, 81 PTC9/CMP0_IN3, 82 PTC10, 83 PTC11, 84 PTC12, 85 PTC13, 86 NC, 87 NC, 88 NC, 89 NC, 90 PTC16, 91 PTC17, 92 PTC18, 93 PTD0, 94 PTD1/ADC0_SE5b, 95 PTD2, 96 PTD3, 97 PTD4/LLWU_P14, 98 PTD5/ADC0_SE6b, 99 PTD6/LLWU_P15//ADC0_SE7b, 100 PTD7
text: PTA; PTB; PTC; PTD; PTE

## KL26（最小系统）
designator U?
pins: 1 PTB19, 2 PTB20, 3 PTB22, 4 PTB21, 5 PTC0, 6 PTB23, 7 PTC2, 8 PTC1, 9 PTA20, 10 PTC3, 11 PTC5, 12 PTC4, 13 PTC7, 14 PTC6, 15 PTC9, 16 PTC8, 17 PTC11, 18 PTC10, 19 PTC12, 20 PTC13, 21 PTC16, 22 PTC17, 23 PTD0, 24 PTD1, 25 PTD2, 26 PTD3, 27 PTD4, 28 PTD5, 29 PTD6, 30 PTD7, 31 3V3, 32 GND, 33 5V, 34 GND, 35 PTE5, 36 PTE0, 37 PTE3, 38 PTE4, 39 PTE1, 40 PTE2, 41 PTE6, 42 PTC18, 43 PTE16, 44 PTE17, 45 PTE18, 46 PTE19, 47 PTE20, 48 PTE21, 49 PTE22, 50 PTE23, 51 GND, 52 REF, 53 PTE29, 54 PTE30, 55 PTE31, 56 PTE24, 57 PTE26, 58 PTE25, 59 PTA1, 60 PTA0, 61 PTA2, 62 PTA3, 63 PTA4, 64 PTA5, 65 PTA6, 66 PTA7, 67 PTA13, 68 PTA12, 69 PTA15, 70 PTA14, 71 PTA17, 72 PTA16, 73 PTB1, 74 PTB0, 75 PTB3, 76 PTB2, 77 PTB7, 78 PTB8, 79 PTB11, 80 PTB9, 81 PTB17, 82 PTB10, 83 PTB18, 84 PTB16

## LCD(With 5-KEY)
designator P?
footprint HDR2X10 (Connector; Header; 10x2 Position)
pins: 1 D0, 2 3V3, 3 D1, 4 CS, 5 D2, 6 RST, 7 D3, 8 WR, 9 D4, 10 K_R, 11 D5, 12 RS, 13 D6, 14 K_L, 15 D7, 16 K_U, 17 K_D, 18 RD, 19 K_S, 20 GND

## LED
designator D?
footprint LED0805 (1/8W)
footprint L1206 (1/4W)
pins: 1 A, 2 K

## LED3528
designator D?
footprint LED3528-3
pins: 1 R, 2 VCC, 3 B, 4 G

## LM35
designator U?
footprint TO92B (TO, Flat Index; 3 In-Line, Axial Leads; Body Dia. 4.8mm; Leads 0.48 x 0.5 mm (max))
pins: 1 +Vs, 2 Vout, 3 GND

## LM324
designator LM324
footprint SOP14
part A pins: 1 (out), 2 (in), 3 (in), 4, 11
part B pins: 4, 5 (in), 6 (in), 7 (out), 11
part C pins: 4, 8 (out), 9 (in), 10 (in), 11
part D pins: 4, 11, 12 (in), 13 (in), 14 (out)

## LM339
designator *
footprint SOP14
part A pins: 2 OUT1 (out), 3 VCC+, 4 IN1- (in), 5 IN1+ (in), 12 VCC-
part B pins: 1 OUT2 (out), 3 VCC+, 6 IN2- (in), 7 IN2+ (in), 12 VCC-
part C pins: 3 VCC+, 8 IN3- (in), 9 IN3+ (in), 12 VCC-, 14 OUT3 (out)
part D pins: 3 VCC+, 10 IN4- (in), 11 IN4+ (in), 12 VCC-, 13 OUT4 (out)

## LM358DR2G_[C7950]
designator U?, comment LM358
通用运放; ComponentLink1Description: 供应商链接; ComponentLink1URL: http://www.szlcsc.com/product/details_8427.html; Package: SOIC-8; Supplier: LC; SuppliersPartNumber: C7950
footprint SOIC8
pins on every part: 4 V- (power), 8 V+ (power)
part A pins: 1 OUT (out), 2 IN- (in), 3 IN+ (in)
part B pins: 5 IN+ (in), 6 IN- (in), 7 OUT (out)

## LM393
designator U?
footprint SOIC8
pins: 1 1OUT, 2 1IN-, 3 1IN+, 4 GND, 5 2IN+, 6 2IN-, 7 2OUT, 8 VCC

## LM2596
designator VR?
固定输出5V，3.3V，12V，或可调ADJ
footprint TO263-5
pins: 1 VIN, 2 OUT, 3 GND, 4 FEEDBACK, 5 ON/OFF

## LM2940_5V
designator U?
footprint TO263 (D2PAK936)
pins: 1 IN, 2 GND, 3 OUT

## LM7805
designator U?
pins: 1 VIN, 2 GND, 3 VOUT

## LM27313
designator U?
footprint SOT23-5
pins: 1 SW, 2 GND, 3 FB, 4 ~{SHDN}, 5 VIN

## LMV321IDBVRG4_[C7972]
designator U?, comment LMV321IDBVRG4
运放; ComponentLink1Description: 供应商链接; ComponentLink1URL: http://www.szlcsc.com/product/details_8449.html; Package: SOT-23-5; Supplier: LC; SuppliersPartNumber: C7972
footprint SOT23-5
pins: 1 IN+ (in), 2 V- (power), 3 IN- (in), 4 OUT (out), 5 V+ (power)

## LP38692
designator U?
footprint SOT223_5pin (SOT223, 5-Leads, Body 6.50x7.00mm (avg), Pitch 1.50mm, IPC Medium Density)
pins: 1 VEN, 2 NC, 3 VOUT, 4 VIN, 5 GND

## MAX490
designator U?
footprint SOIC8
pins: 1 VCC, 2 RO, 3 DI, 4 GND, 5 Y, 6 Z, 7 B, 8 A

## MAX3232
designator U?
footprint SOIC-16 (SOIC, 16-Leads, Body 9.90x3.90mm, Pitch 1.27mm, IPC Medium Density)
pins: 1 C1+, 2 V+, 3 C1-, 4 C2+, 5 C2-, 6 V-, 7 T2OUT, 8 R2IN, 9 R2OUT, 10 T2IN, 11 T1IN, 12 R1OUT, 13 R1IN, 14 T1OUT, 15 GND, 16 VCC

## MAX3485EESA
designator U?
footprint SOIC8
pins: 1 RO, 2 ~{RE}, 3 DE, 4 DI, 5 GND, 6 A, 7 B, 8 VCC

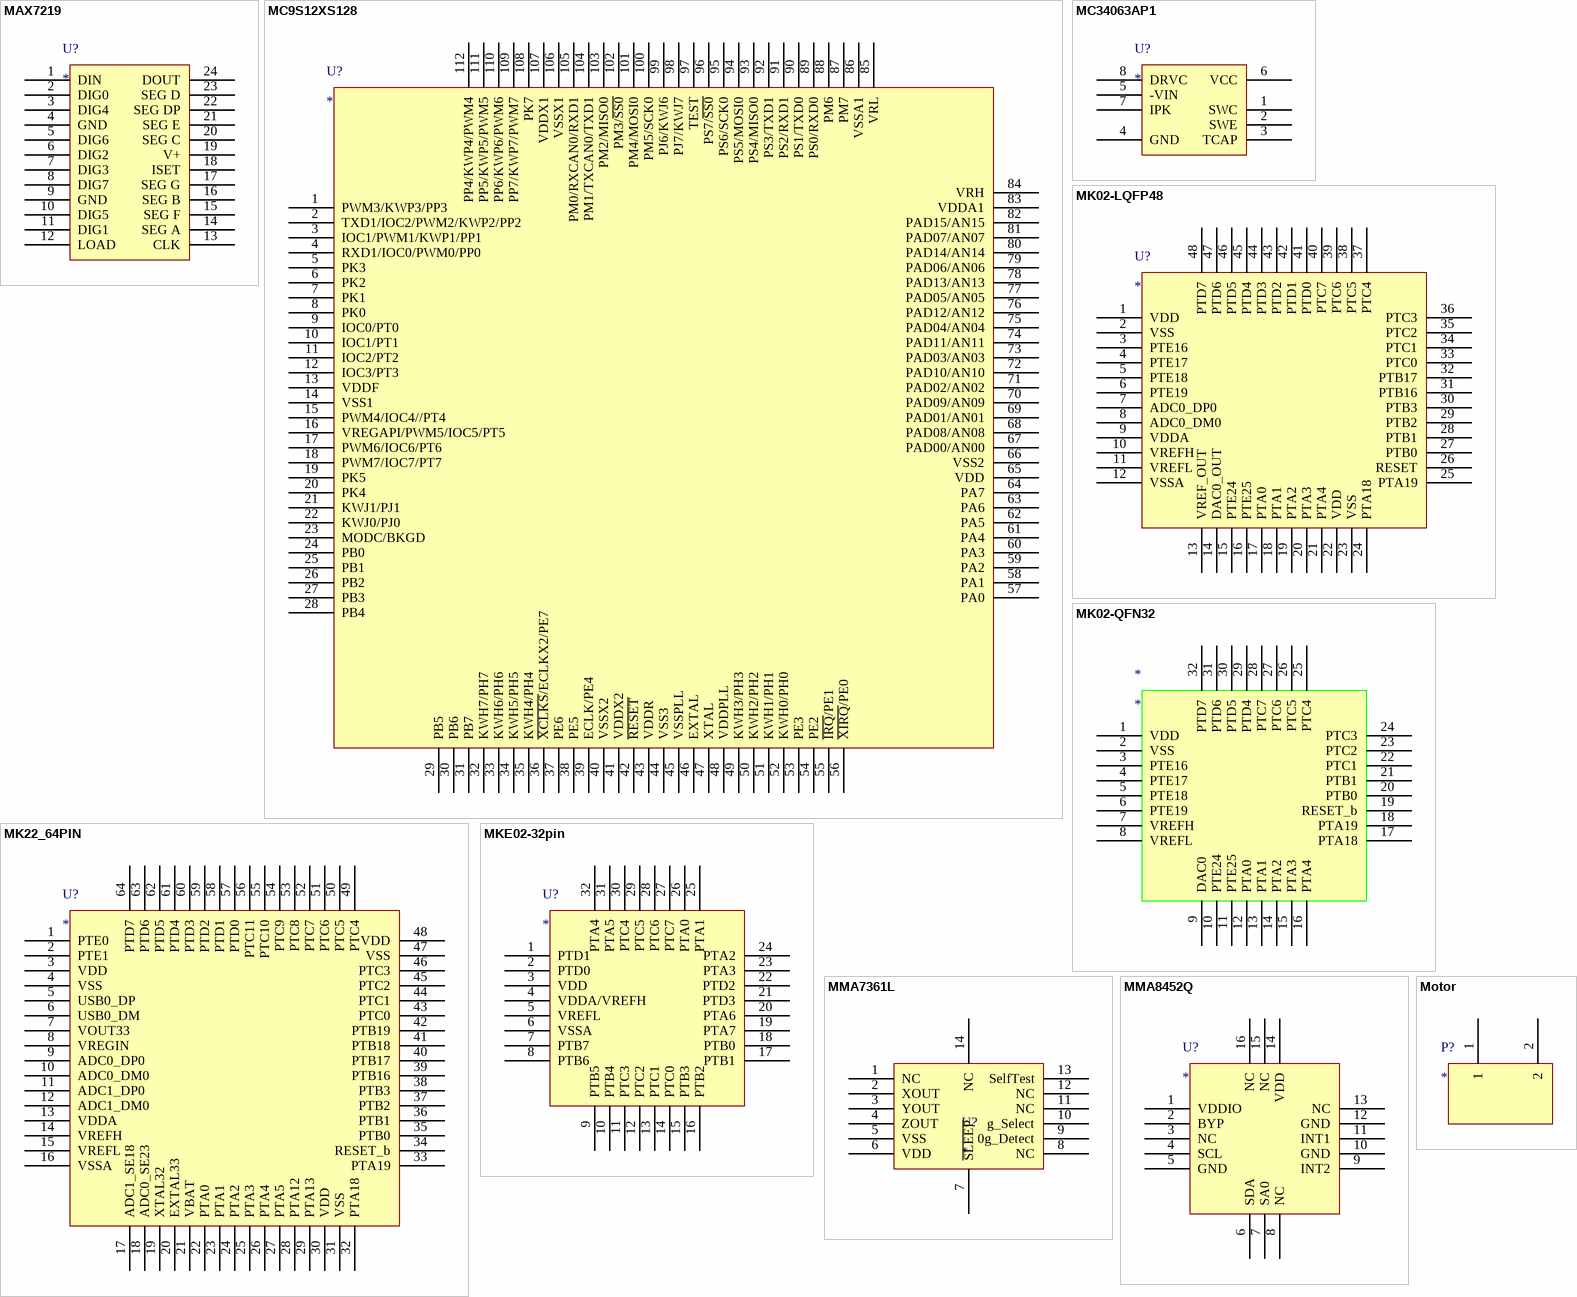
[diagram p6: symbols MAX7219 to Motor]

## MAX7219
designator U?
footprint SOP24-375
pins: 1 DIN, 2 DIG0, 3 DIG4, 4 GND, 5 DIG6, 6 DIG2, 7 DIG3, 8 DIG7, 9 GND, 10 DIG5, 11 DIG1, 12 LOAD, 13 CLK, 14 SEG A, 15 SEG F, 16 SEG B, 17 SEG G, 18 ISET, 19 V+, 20 SEG C, 21 SEG E, 22 SEG DP, 23 SEG D, 24 DOUT

## MC9S12XS128
designator U?
footprint LQFP112N (TQFP, 112-Leads, Body 22.0x22.0mm (max), Pitch 0.65mm, IPC Medium Density)
pins: 1 PWM3/KWP3/PP3, 2 TXD1/IOC2/PWM2/KWP2/PP2, 3 IOC1/PWM1/KWP1/PP1, 4 RXD1/IOC0/PWM0/PP0, 5 PK3, 6 PK2, 7 PK1, 8 PK0, 9 IOC0/PT0, 10 IOC1/PT1, 11 IOC2/PT2, 12 IOC3/PT3, 13 VDDF, 14 VSS1, 15 PWM4/IOC4//PT4, 16 VREGAPI/PWM5/IOC5/PT5, 17 PWM6/IOC6/PT6, 18 PWM7/IOC7/PT7, 19 PK5, 20 PK4, 21 KWJ1/PJ1, 22 KWJ0/PJ0, 23 MODC/BKGD, 24 PB0, 25 PB1, 26 PB2, 27 PB3, 28 PB4, 29 PB5, 30 PB6, 31 PB7, 32 KWH7/PH7, 33 KWH6/PH6, 34 KWH5/PH5, 35 KWH4/PH4, 36 ~{XCLKS}/ECLKX2/PE7, 37 PE6, 38 PE5, 39 ECLK/PE4, 40 VSSX2, 41 VDDX2, 42 ~{RESET}, 43 VDDR, 44 VSS3, 45 VSSPLL, 46 EXTAL, 47 XTAL, 48 VDDPLL, 49 KWH3/PH3, 50 KWH2/PH2, 51 KWH1/PH1, 52 KWH0/PH0, 53 PE3, 54 PE2, 55 ~{IRQ}/PE1, 56 ~{XIRQ}/PE0, 57 PA0, 58 PA1, 59 PA2, 60 PA3, 61 PA4, 62 PA5, 63 PA6, 64 PA7, 65 VDD, 66 VSS2, 67 PAD00/AN00, 68 PAD08/AN08, 69 PAD01/AN01, 70 PAD09/AN09, 71 PAD02/AN02, 72 PAD10/AN10, 73 PAD03/AN03, 74 PAD11/AN11, 75 PAD04/AN04, 76 PAD12/AN12, 77 PAD05/AN05, 78 PAD13/AN13, 79 PAD06/AN06, 80 PAD14/AN14, 81 PAD07/AN07, 82 PAD15/AN15, 83 VDDA1, 84 VRH, 85 VRL, 86 VSSA1, 87 PM7, 88 PM6, 89 PS0/RXD0, 90 PS1/TXD0, 91 PS2/RXD1, 92 PS3/TXD1, 93 PS4/MISO0, 94 PS5/MOSI0, 95 PS6/SCK0, 96 PS7/~{SS0}, 97 TEST, 98 PJ7/KWJ7, 99 PJ6/KWJ6, 100 PM5/SCK0, 101 PM4/MOSI0, 102 PM3/~{SS0}, 103 PM2/MISO0, 104 PM1/TXCAN0/TXD1, 105 PM0/RXCAN0/RXD1, 106 VSSX1, 107 VDDX1, 108 PK7, 109 PP7/KWP7/PWM7, 110 PP6/KWP6/PWM6, 111 PP5/KWP5/PWM5, 112 PP4/KWP4/PWM4

## MC34063AP1
designator U?
footprint SOP8
pins: 1 SWC, 2 SWE, 3 TCAP, 4 GND, 5 -VIN, 6 VCC, 7 IPK, 8 DRVC

## MK02-LQFP48
designator U?
footprint LQFP-48
pins: 1 VDD, 2 VSS, 3 PTE16, 4 PTE17, 5 PTE18, 6 PTE19, 7 ADC0_DP0, 8 ADC0_DM0, 9 VDDA, 10 VREFH, 11 VREFL, 12 VSSA, 13 VREF_OUT, 14 DAC0_OUT, 15 PTE24, 16 PTE25, 17 PTA0, 18 PTA1, 19 PTA2, 20 PTA3, 21 PTA4, 22 VDD, 23 VSS, 24 PTA18, 25 PTA19, 26 RESET, 27 PTB0, 28 PTB1, 29 PTB2, 30 PTB3, 31 PTB16, 32 PTB17, 33 PTC0, 34 PTC1, 35 PTC2, 36 PTC3, 37 PTC4, 38 PTC5, 39 PTC6, 40 PTC7, 41 PTD0, 42 PTD1, 43 PTD2, 44 PTD3, 45 PTD4, 46 PTD5, 47 PTD6, 48 PTD7

## MK02-QFN32
designator *
footprint QFN32
pins: 1 VDD, 2 VSS, 3 PTE16, 4 PTE17, 5 PTE18, 6 PTE19, 7 VREFH, 8 VREFL, 9 DAC0, 10 PTE24, 11 PTE25, 12 PTA0, 13 PTA1, 14 PTA2, 15 PTA3, 16 PTA4, 17 PTA18, 18 PTA19, 19 RESET_b, 20 PTB0, 21 PTB1, 22 PTC1, 23 PTC2, 24 PTC3, 25 PTC4, 26 PTC5, 27 PTC6, 28 PTC7, 29 PTD4, 30 PTD5, 31 PTD6, 32 PTD7

## MK22_64PIN
designator U?
footprint LQFP-64
pins: 1 PTE0, 2 PTE1, 3 VDD, 4 VSS, 5 USB0_DP, 6 USB0_DM, 7 VOUT33, 8 VREGIN, 9 ADC0_DP0, 10 ADC0_DM0, 11 ADC1_DP0, 12 ADC1_DM0, 13 VDDA, 14 VREFH, 15 VREFL, 16 VSSA, 17 ADC1_SE18, 18 ADC0_SE23, 19 XTAL32, 20 EXTAL33, 21 VBAT, 22 PTA0, 23 PTA1, 24 PTA2, 25 PTA3, 26 PTA4, 27 PTA5, 28 PTA12, 29 PTA13, 30 VDD, 31 VSS, 32 PTA18, 33 PTA19, 34 RESET_b, 35 PTB0, 36 PTB1, 37 PTB2, 38 PTB3, 39 PTB16, 40 PTB17, 41 PTB18, 42 PTB19, 43 PTC0, 44 PTC1, 45 PTC2, 46 PTC3, 47 VSS, 48 VDD, 49 PTC4, 50 PTC5, 51 PTC6, 52 PTC7, 53 PTC8, 54 PTC9, 55 PTC10, 56 PTC11, 57 PTD0, 58 PTD1, 59 PTD2, 60 PTD3, 61 PTD4, 62 PTD5, 63 PTD6, 64 PTD7

## MKE02-32pin
designator U?
footprint LQFP32 (TQFP, 32-Leads, Body 7.00x7.00mm, Pitch 0.80mm, IPC Medium Density)
pins: 1 PTD1, 2 PTD0, 3 VDD, 4 VDDA/VREFH, 5 VREFL, 6 VSSA, 7 PTB7, 8 PTB6, 9 PTB5, 10 PTB4, 11 PTC3, 12 PTC2, 13 PTC1, 14 PTC0, 15 PTB3, 16 PTB2, 17 PTB1, 18 PTB0, 19 PTA7, 20 PTA6, 21 PTD3, 22 PTD2, 23 PTA3, 24 PTA2, 25 PTA1, 26 PTA0, 27 PTC7, 28 PTC6, 29 PTC5, 30 PTC4, 31 PTA5, 32 PTA4

## MMA7361L
designator U?
footprint NRF24L01_无线串口
pins: 1 NC, 2 XOUT, 3 YOUT, 4 ZOUT, 5 VSS, 6 VDD, 7 ~{SLEEP}, 8 NC, 9 0g_Detect, 10 g_Select, 11 NC, 12 NC, 13 SelfTest, 14 NC

## MMA8452Q
designator U?
footprint QFN16-3mm (QFN, 16-Leads, Body 3.0x3.0mm (max), Pitch 0.50mm, IPC Low Density)
pins: 1 VDDIO, 2 BYP, 3 NC, 4 SCL, 5 GND, 6 SDA, 7 SA0, 8 NC, 9 INT2, 10 GND, 11 INT1, 12 GND, 13 NC, 14 VDD, 15 NC, 16 NC

## Motor
designator P?
footprint T型插头公
pins: 1, 2

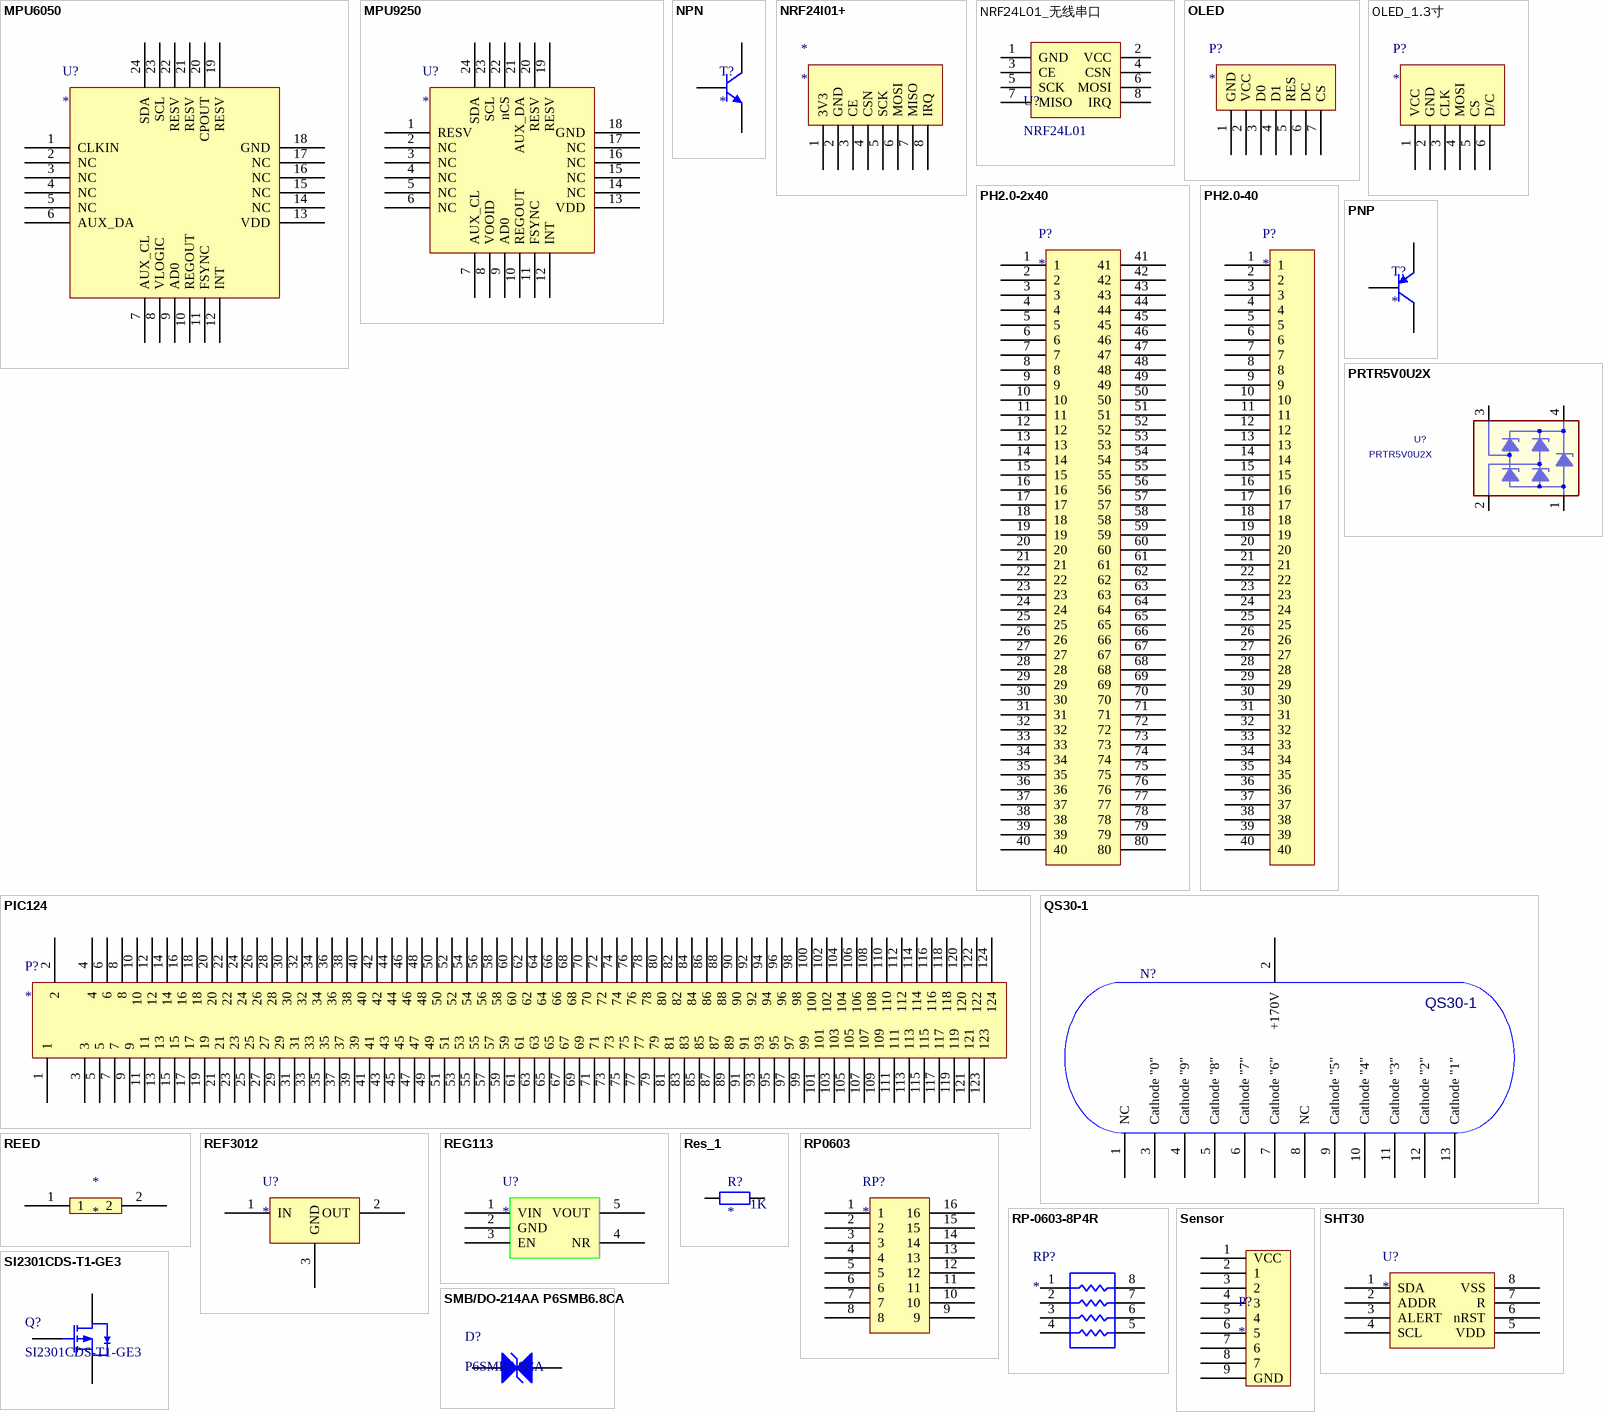
[diagram p7: symbols MPU6050 to SMB/DO-214AA P6SMB6.8CA]

## MPU6050
designator U?
footprint QFN24
pins: 1 CLKIN, 2 NC, 3 NC, 4 NC, 5 NC, 6 AUX_DA, 7 AUX_CL, 8 VLOGIC, 9 AD0, 10 REGOUT, 11 FSYNC, 12 INT, 13 VDD, 14 NC, 15 NC, 16 NC, 17 NC, 18 GND, 19 RESV, 20 CPOUT, 21 RESV, 22 RESV, 23 SCL, 24 SDA

## MPU9250
designator U?
footprint QFN24
pins: 1 RESV, 2 NC, 3 NC, 4 NC, 5 NC, 6 NC, 7 AUX_CL, 8 VOOID, 9 AD0, 10 REGOUT, 11 FSYNC, 12 INT, 13 VDD, 14 NC, 15 NC, 16 NC, 17 NC, 18 GND, 19 RESV, 20 RESV, 21 AUX_DA, 22 nCS, 23 SCL, 24 SDA

## NPN
designator T?
footprint SOT-23
pins: 1 B, 2 E, 3 C

## NRF24l01+
designator *
footprint NRF24L01+
pins: 1 3V3, 2 GND, 3 CE, 4 CSN, 5 SCK, 6 MOSI, 7 MISO, 8 IRQ

## NRF24L01_无线串口
designator U?, comment NRF24L01
footprint NRF24L01_无线串口
footprint NRF24L01_无线串口
pins: 1 GND, 2 VCC, 3 CE, 4 CSN, 5 SCK, 6 MOSI, 7 MISO, 8 IRQ

## OLED
designator P?
footprint OLED
pins: 1 GND, 2 VCC, 3 D0, 4 D1, 5 RES, 6 DC, 7 CS

## OLED_1.3寸
designator P?
footprint OLED_1.3
pins: 1 VCC, 2 GND, 3 CLK, 4 MOSI, 5 CS, 6 D/C

## PH2.0-2x40
designator P?
footprint HDR2X40-Hz (Connector; Header; 16 Position)
pins: 1, 2, 3, 4, 5, 6, 7, 8, 9, 10, 11, 12, 13, 14, 15, 16, 17, 18, 19, 20, 21, 22, 23, 24, 25, 26, 27, 28, 29, 30, 31, 32, 33, 34, 35, 36, 37, 38, 39, 40, 41, 42, 43, 44, 45, 46, 47, 48, 49, 50, 51, 52, 53, 54, 55, 56, 57, 58, 59, 60, 61, 62, 63, 64, 65, 66, 67, 68, 69, 70, 71, 72, 73, 74, 75, 76, 77, 78, 79, 80

## PH2.0-40
designator P?
footprint HDR1X40-Hz (Connector; Header; 16 Position)
pins: 1, 2, 3, 4, 5, 6, 7, 8, 9, 10, 11, 12, 13, 14, 15, 16, 17, 18, 19, 20, 21, 22, 23, 24, 25, 26, 27, 28, 29, 30, 31, 32, 33, 34, 35, 36, 37, 38, 39, 40

## PIC124
designator P?
footprint PIC124
pins: 1, 2, 3, 4, 5, 6, 7, 8, 9, 10, 11, 12, 13, 14, 15, 16, 17, 18, 19, 20, 21, 22, 23, 24, 25, 26, 27, 28, 29, 30, 31, 32, 33, 34, 35, 36, 37, 38, 39, 40, 41, 42, 43, 44, 45, 46, 47, 48, 49, 50, 51, 52, 53, 54, 55, 56, 57, 58, 59, 60, 61, 62, 63, 64, 65, 66, 67, 68, 69, 70, 71, 72, 73, 74, 75, 76, 77, 78, 79, 80, 81, 82, 83, 84, 85, 86, 87, 88, 89, 90, 91, 92, 93, 94, 95, 96, 97, 98, 99, 100, 101, 102, 103, 104, 105, 106, 107, 108, 109, 110, 111, 112, 113, 114, 115, 116, 117, 118, 119, 120, 121, 122, 123, 124

## PNP
designator T?
footprint SOT23
pins: 1 B, 2 E, 3 C

## PRTR5V0U2X
designator U?
Manufacturer: NXP; room: ETHERNET; Remark: ESD; Manufacturer Part Number: PRTR5V0U2X; Manufacturer PartNumber: PRTR5V0U2X
footprint SOT-143 (SOT143, 4-Leads, Body 3.0x2.5mm (max), Pitch 1.90mm, IPC Medium Density)
pins: 1, 2, 3, 4

## QS30-1
designator N?  (value not drawn)
footprint QS30-1
pins: 1 NC, 2 +170V, 3 Cathode "0", 4 Cathode "9", 5 Cathode "8", 6 Cathode "7", 7 Cathode "6", 8 NC, 9 Cathode "5", 10 Cathode "4", 11 Cathode "3", 12 Cathode "2", 13 Cathode "1"

## REED
designator *
pins: 1, 2

## REF3012
designator U?
footprint SOT23
pins: 1 IN, 2 OUT, 3 GND

## REG113
designator U?
footprint SOT23-5
pins: 1 VIN, 2 GND, 3 EN, 4 NR, 5 VOUT

## Res_1
designator R?  value 1K
footprint R0805 (1/8W)
footprint R0603 (1/10W)
pins: 1, 2

## RP0603
designator RP?
footprint RR0603X8
pins: 1, 2, 3, 4, 5, 6, 7, 8, 9, 10, 11, 12, 13, 14, 15, 16

## RP-0603-8P4R
designator RP?
footprint 0603 PZ
pins: 1, 2, 3, 4, 5, 6, 7, 8

## Sensor
designator P?
footprint HDR1X9H (Connector; Header; 9 Position; Right Angle)
pins: 1 VCC, 2 1, 3 2, 4 3, 5 4, 6 5, 7 6, 8 7, 9 GND

## SHT30
designator U?
footprint DFN8 (SON, 8-Leads, 50x2.50mm,)
pins: 1 SDA, 2 ADDR, 3 ALERT, 4 SCL, 5 VDD, 6 nRST, 7 R, 8 VSS

## SI2301CDS-T1-GE3
designator Q?
MOS(场效应管); ComponentLink1Description: 供应商链接; ComponentLink1URL: http://www.szlcsc.com/product/details_11030.html; Package: SOT-23(SOT-23-3); Supplier: LC; SuppliersPartNumber: C10487
footprint SOT-23(SOT-23-3)
pins: 1 G, 2 S, 3 D

## SMB/DO-214AA P6SMB6.8CA
designator D?, comment P6SMB6.8CA
TVS; ComponentLink1Description: 供应商链接; ComponentLink1URL: http://www.szlcsc.com/product/details_79530.html; Package: SMB/DO-214AA; Supplier: LC; SuppliersPartNumber: C78395
footprint SMB(DO-214AA)_S1
footprint SMB (DO-214AA)
pins: 1 A, 2 K

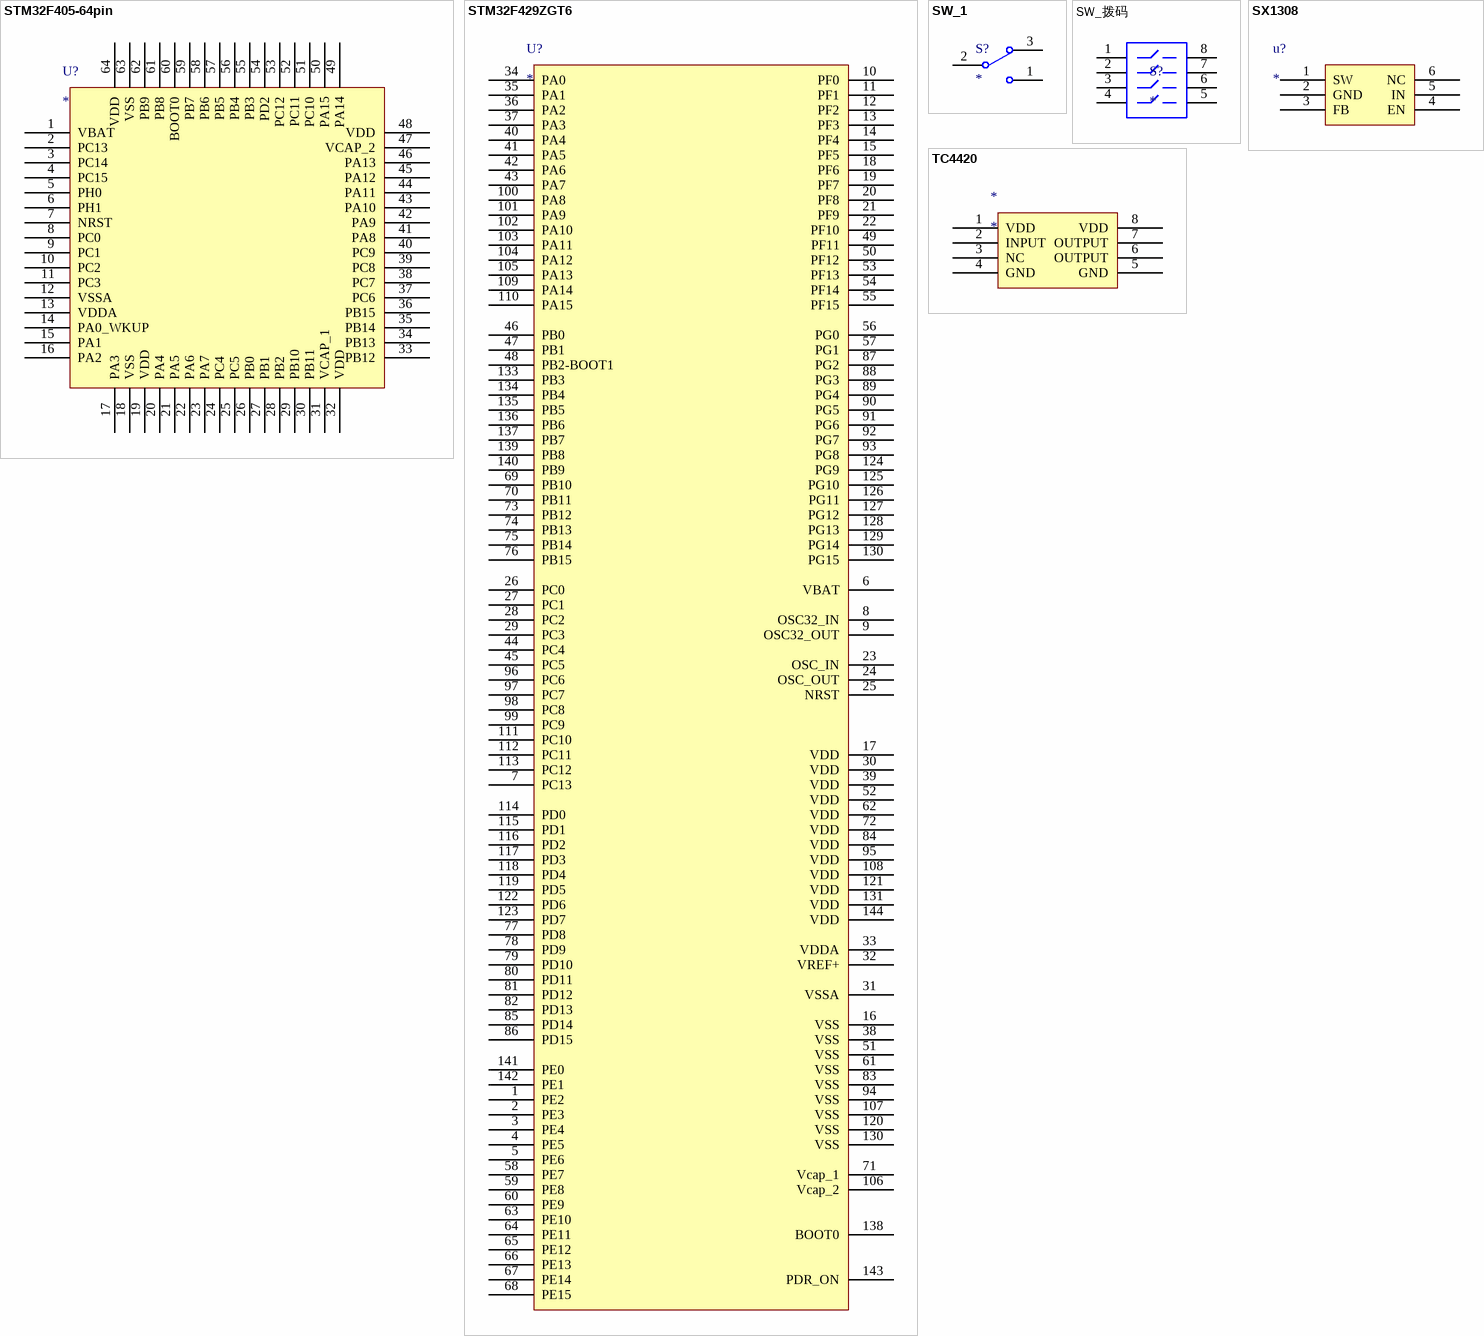
[diagram p8: symbols STM32F405-64pin to TC4420]

## STM32F405-64pin
designator U?
footprint LQFP-64
pins: 1 VBAT, 2 PC13, 3 PC14, 4 PC15, 5 PH0, 6 PH1, 7 NRST, 8 PC0, 9 PC1, 10 PC2, 11 PC3, 12 VSSA, 13 VDDA, 14 PA0_WKUP, 15 PA1, 16 PA2, 17 PA3, 18 VSS, 19 VDD, 20 PA4, 21 PA5, 22 PA6, 23 PA7, 24 PC4, 25 PC5, 26 PB0, 27 PB1, 28 PB2, 29 PB10, 30 PB11, 31 VCAP_1, 32 VDD, 33 PB12, 34 PB13, 35 PB14, 36 PB15, 37 PC6, 38 PC7, 39 PC8, 40 PC9, 41 PA8, 42 PA9, 43 PA10, 44 PA11, 45 PA12, 46 PA13, 47 VCAP_2, 48 VDD, 49 PA14, 50 PA15, 51 PC10, 52 PC11, 53 PC12, 54 PD2, 55 PB3, 56 PB4, 57 PB5, 58 PB6, 59 PB7, 60 BOOT0, 61 PB8, 62 PB9, 63 VSS, 64 VDD

## STM32F429ZGT6
designator U?
footprint LQFP144
pins: 1 PE2, 2 PE3, 3 PE4, 4 PE5, 5 PE6, 6 VBAT, 7 PC13, 8 OSC32_IN, 9 OSC32_OUT, 10 PF0, 11 PF1, 12 PF2, 13 PF3, 14 PF4, 15 PF5, 16 VSS, 17 VDD, 18 PF6, 19 PF7, 20 PF8, 21 PF9, 22 PF10, 23 OSC_IN, 24 OSC_OUT, 25 NRST, 26 PC0, 27 PC1, 28 PC2, 29 PC3, 30 VDD, 31 VSSA, 32 VREF+, 33 VDDA, 34 PA0, 35 PA1, 36 PA2, 37 PA3, 38 VSS, 39 VDD, 40 PA4, 41 PA5, 42 PA6, 43 PA7, 44 PC4, 45 PC5, 46 PB0, 47 PB1, 48 PB2-BOOT1, 49 PF11, 50 PF12, 51 VSS, 52 VDD, 53 PF13, 54 PF14, 55 PF15, 56 PG0, 57 PG1, 58 PE7, 59 PE8, 60 PE9, 61 VSS, 62 VDD, 63 PE10, 64 PE11, 65 PE12, 66 PE13, 67 PE14, 68 PE15, 69 PB10, 70 PB11, 71 Vcap_1, 72 VDD, 73 PB12, 74 PB13, 75 PB14, 76 PB15, 77 PD8, 78 PD9, 79 PD10, 80 PD11, 81 PD12, 82 PD13, 83 VSS, 84 VDD, 85 PD14, 86 PD15, 87 PG2, 88 PG3, 89 PG4, 90 PG5, 91 PG6, 92 PG7, 93 PG8, 94 VSS, 95 VDD, 96 PC6, 97 PC7, 98 PC8, 99 PC9, 100 PA8, 101 PA9, 102 PA10, 103 PA11, 104 PA12, 105 PA13, 106 Vcap_2, 107 VSS, 108 VDD, 109 PA14, 110 PA15, 111 PC10, 112 PC11, 113 PC12, 114 PD0, 115 PD1, 116 PD2, 117 PD3, 118 PD4, 119 PD5, 120 VSS, 121 VDD, 122 PD6, 123 PD7, 124 PG9, 125 PG10, 126 PG11, 127 PG12, 128 PG13, 129 PG14, 130 PG15, 130 VSS, 131 VDD, 133 PB3, 134 PB4, 135 PB5, 136 PB6, 137 PB7, 138 BOOT0, 139 PB8, 140 PB9, 141 PE0, 142 PE1, 143 PDR_ON, 144 VDD

## SW_1
designator S?
footprint BDKG
pins: 1, 2, 3

## SW_拨码
designator S?
footprint SW4P
pins: 1, 2, 3, 4, 5, 6, 7, 8

## SX1308
designator u?
DC-DC升压
footprint SOT23-6 (SOT-23/SC-74A; 5 Leads; Body 3.1 x 3 mm, inc. leads (LxW max))
pins: 1 SW, 2 GND, 3 FB, 4 EN, 5 IN, 6 NC

## TC4420
designator *
footprint DIP8
pins: 1 VDD, 2 INPUT, 3 NC, 4 GND, 5 GND, 6 OUTPUT, 7 OUTPUT, 8 VDD

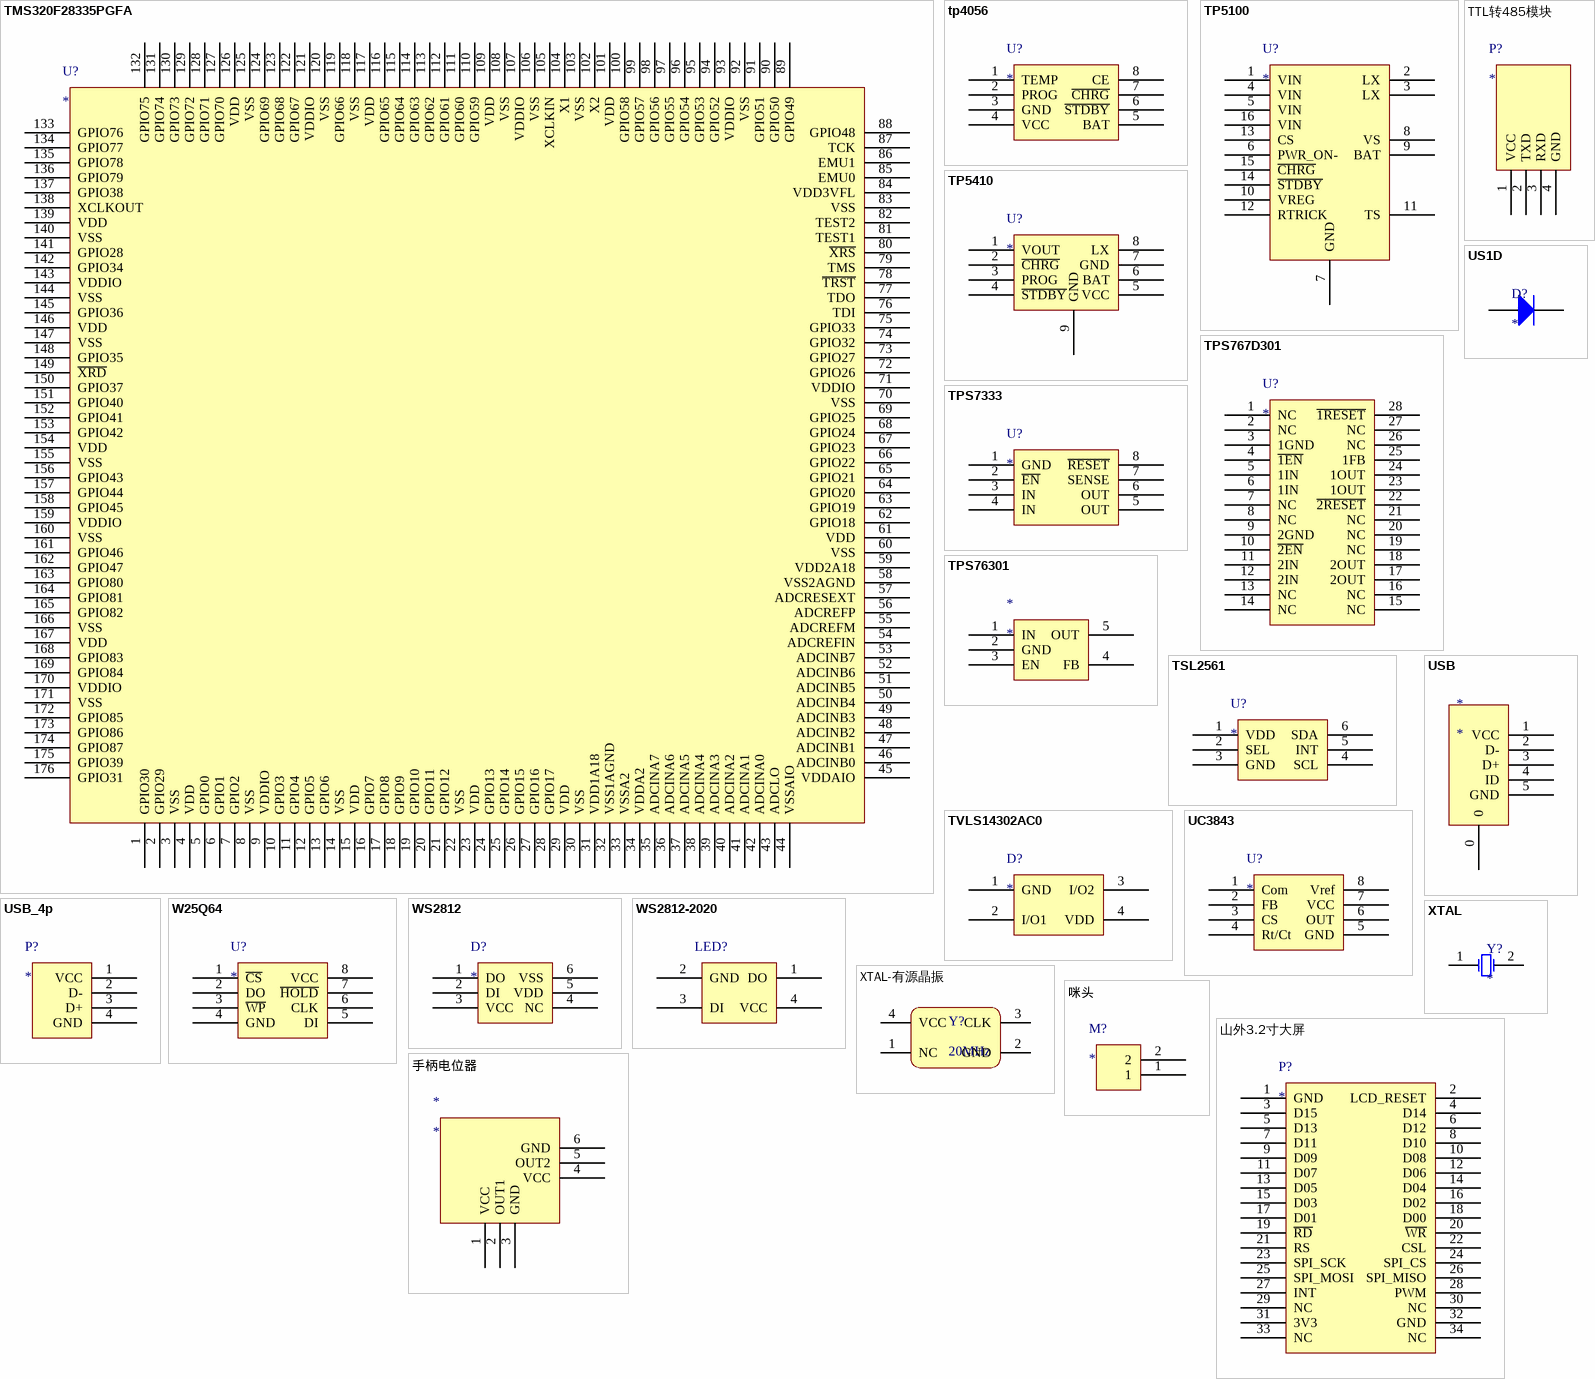
[diagram p9: symbols TMS320F28335PGFA to 手柄电位器]

## TMS320F28335PGFA
designator U?
footprint LQFP176
pins: 1 GPIO30, 2 GPIO29, 3 VSS, 4 VDD, 5 GPIO0, 6 GPIO1, 7 GPIO2, 8 VSS, 9 VDDIO, 10 GPIO3, 11 GPIO4, 12 GPIO5, 13 GPIO6, 14 VSS, 15 VDD, 16 GPIO7, 17 GPIO8, 18 GPIO9, 19 GPIO10, 20 GPIO11, 21 GPIO12, 22 VSS, 23 VDD, 24 GPIO13, 25 GPIO14, 26 GPIO15, 27 GPIO16, 28 GPIO17, 29 VDD, 30 VSS, 31 VDD1A18, 32 VSS1AGND, 33 VSSA2, 34 VDDA2, 35 ADCINA7, 36 ADCINA6, 37 ADCINA5, 38 ADCINA4, 39 ADCINA3, 40 ADCINA2, 41 ADCINA1, 42 ADCINA0, 43 ADCLO, 44 VSSAIO, 45 VDDAIO, 46 ADCINB0, 47 ADCINB1, 48 ADCINB2, 49 ADCINB3, 50 ADCINB4, 51 ADCINB5, 52 ADCINB6, 53 ADCINB7, 54 ADCREFIN, 55 ADCREFM, 56 ADCREFP, 57 ADCRESEXT, 58 VSS2AGND, 59 VDD2A18, 60 VSS, 61 VDD, 62 GPIO18, 63 GPIO19, 64 GPIO20, 65 GPIO21, 66 GPIO22, 67 GPIO23, 68 GPIO24, 69 GPIO25, 70 VSS, 71 VDDIO, 72 GPIO26, 73 GPIO27, 74 GPIO32, 75 GPIO33, 76 TDI, 77 TDO, 78 ~{TRST}, 79 TMS, 80 ~{XRS}, 81 TEST1, 82 TEST2, 83 VSS, 84 VDD3VFL, 85 EMU0, 86 EMU1, 87 TCK, 88 GPIO48, 89 GPIO49, 90 GPIO50, 91 GPIO51, 92 VSS, 93 VDDIO, 94 GPIO52, 95 GPIO53, 96 GPIO54, 97 GPIO55, 98 GPIO56, 99 GPIO57, 100 GPIO58, 101 VDD, 102 X2, 103 VSS, 104 X1, 105 XCLKIN, 106 VSS, 107 VDDIO, 108 VSS, 109 VDD, 110 GPIO59, 111 GPIO60, 112 GPIO61, 113 GPIO62, 114 GPIO63, 115 GPIO64, 116 GPIO65, 117 VDD, 118 VSS, 119 GPIO66, 120 VSS, 121 VDDIO, 122 GPIO67, 123 GPIO68, 124 GPIO69, 125 VSS, 126 VDD, 127 GPIO70, 128 GPIO71, 129 GPIO72, 130 GPIO73, 131 GPIO74, 132 GPIO75, 133 GPIO76, 134 GPIO77, 135 GPIO78, 136 GPIO79, 137 GPIO38, 138 XCLKOUT, 139 VDD, 140 VSS, 141 GPIO28, 142 GPIO34, 143 VDDIO, 144 VSS, 145 GPIO36, 146 VDD, 147 VSS, 148 GPIO35, 149 ~{XRD}, 150 GPIO37, 151 GPIO40, 152 GPIO41, 153 GPIO42, 154 VDD, 155 VSS, 156 GPIO43, 157 GPIO44, 158 GPIO45, 159 VDDIO, 160 VSS, 161 GPIO46, 162 GPIO47, 163 GPIO80, 164 GPIO81, 165 GPIO82, 166 VSS, 167 VDD, 168 GPIO83, 169 GPIO84, 170 VDDIO, 171 VSS, 172 GPIO85, 173 GPIO86, 174 GPIO87, 175 GPIO39, 176 GPIO31

## tp4056
designator U?
footprint SOP8-9
pins: 1 TEMP, 2 PROG, 3 GND, 4 VCC, 5 BAT, 6 ~{STDBY}, 7 ~{CHRG}, 8 CE

## TP5100
designator U?
footprint QFN16-4MM (LNA)
pins: 1 VIN, 2 LX, 3 LX, 4 VIN, 5 VIN, 6 PWR_ON-, 7 GND, 8 VS, 9 BAT, 10 VREG, 11 TS, 12 RTRICK, 13 CS, 14 ~{STDBY}, 15 ~{CHRG}, 16 VIN

## TP5410
designator U?
footprint SOP8-9
pins: 1 VOUT, 2 ~{CHRG}, 3 PROG, 4 ~{STDBY}, 5 VCC, 6 BAT, 7 GND, 8 LX, 9 GND

## TPS767D301
designator U?
footprint SSOP28
pins: 1 NC, 2 NC, 3 1GND, 4 ~{1EN}, 5 1IN, 6 1IN, 7 NC, 8 NC, 9 2GND, 10 ~{2EN}, 11 2IN, 12 2IN, 13 NC, 14 NC, 15 NC, 16 NC, 17 2OUT, 18 2OUT, 19 NC, 20 NC, 21 NC, 22 ~{2RESET}, 23 1OUT, 24 1OUT, 25 1FB, 26 NC, 27 NC, 28 ~{1RESET}

## TPS7333
designator U?
footprint SOIC8
pins: 1 GND, 2 ~{EN}, 3 IN, 4 IN, 5 OUT, 6 OUT, 7 SENSE, 8 ~{RESET}

## TPS76301
designator *
footprint SOT23-5
pins: 1 IN, 2 GND, 3 EN , 4 FB, 5 OUT

## TSL2561
designator U?
pins: 1 VDD, 2 SEL, 3 GND, 4 SCL, 5 INT, 6 SDA

## TTL转485模块
designator P?
footprint TTL转485模块
pins: 1 VCC, 2 TXD, 3 RXD, 4 GND

## TVLS14302AC0
designator D?
pins: 1 GND, 2 I/O1, 3 I/O2, 4 VDD

## UC3843
designator U?
footprint SOIC8
pins: 1 Com, 2 FB, 3 CS, 4 Rt/Ct, 5 GND, 6 OUT, 7 VCC, 8 Vref

## US1D
designator D?
pins: 1 A, 2 K

## USB
designator *
footprint USB-MICRO
pins: 0, 1 VCC, 2 D-, 3 D+, 4 ID, 5 GND

## USB_4p
designator P?
footprint USB-B
pins: 1 VCC, 2 D-, 3 D+, 4 GND

## W25Q64
designator U?
footprint SOIC8
pins: 1 ~{CS}, 2 DO, 3 ~{WP}, 4 GND, 5 DI, 6 CLK, 7 ~{HOLD}, 8 VCC

## WS2812
designator D?
footprint LED5050
pins: 1 DO, 2 DI, 3 VCC, 4 NC, 5 VDD, 6 VSS

## WS2812-2020
designator LED?
footprint WS2812-2020
pins: 1 DO, 2 GND, 3 DI, 4 VCC

## XTAL
designator Y?
pins: 1 OSC1, 2 OSC2

## XTAL-有源晶振
designator Y?, comment 20MHz
footprint XTAL-7050-有源晶振
pins: 1 NC, 2 GND, 3 CLK, 4 VCC

## 咪头
designator M?
footprint 咪头(4.5*2.2)
pins: 1, 2

## 山外3.2寸大屏
designator P?
footprint HDR2X17 (Connector; Header; 17x2 Position)
pins: 1 GND, 2 LCD_RESET, 3 D15, 4 D14, 5 D13, 6 D12, 7 D11, 8 D10, 9 D09, 10 D08, 11 D07, 12 D06, 13 D05, 14 D04, 15 D03, 16 D02, 17 D01, 18 D00, 19 ~{RD}, 20 ~{WR}, 21 RS, 22 CSL, 23 SPI_SCK, 24 SPI_CS, 25 SPI_MOSI, 26 SPI_MISO, 27 INT, 28 PWM, 29 NC, 30 NC, 31 3V3, 32 GND, 33 NC, 34 NC

## 手柄电位器
designator *
footprint 遥杆
pins: 1 VCC, 2 OUT1, 3 GND, 4 VCC, 5 OUT2, 6 GND

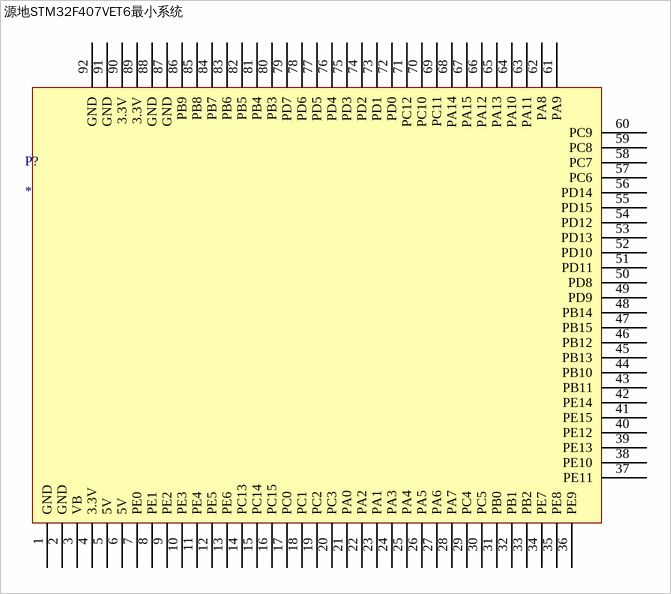
[diagram p10: symbol 源地STM32F407VET6最小系统]

## 源地STM32F407VET6最小系统
designator P?
footprint 源地STM32F407VET6最小系统
pins: 1 GND, 2 GND, 3 VB, 4 3.3V, 5 5V, 6 5V, 7 PE0, 8 PE1, 9 PE2, 10 PE3, 11 PE4, 12 PE5, 13 PE6, 14 PC13, 15 PC14, 16 PC15, 17 PC0, 18 PC1, 19 PC2, 20 PC3, 21 PA0, 22 PA2, 23 PA1, 24 PA3, 25 PA4, 26 PA5, 27 PA6, 28 PA7, 29 PC4, 30 PC5, 31 PB0, 32 PB1, 33 PB2, 34 PE7, 35 PE8, 36 PE9, 37 PE11, 38 PE10, 39 PE13, 40 PE12, 41 PE15, 42 PE14, 43 PB11, 44 PB10, 45 PB13, 46 PB12, 47 PB15, 48 PB14, 49 PD9, 50 PD8, 51 PD11, 52 PD10, 53 PD13, 54 PD12, 55 PD15, 56 PD14, 57 PC6, 58 PC7, 59 PC8, 60 PC9, 61 PA9, 62 PA8, 63 PA11, 64 PA10, 65 PA13, 66 PA12, 67 PA15, 68 PA14, 69 PC11, 70 PC10, 71 PC12, 72 PD0, 73 PD1, 74 PD2, 75 PD3, 76 PD4, 77 PD5, 78 PD6, 79 PD7, 80 PB3, 81 PB4, 82 PB5, 83 PB6, 84 PB7, 85 PB8, 86 PB9, 87 GND, 88 GND, 89 3.3V, 90 3.3V, 91 GND, 92 GND